# Altium integrated library STM32.IntLib: 732 symbols (part 52 of 99)
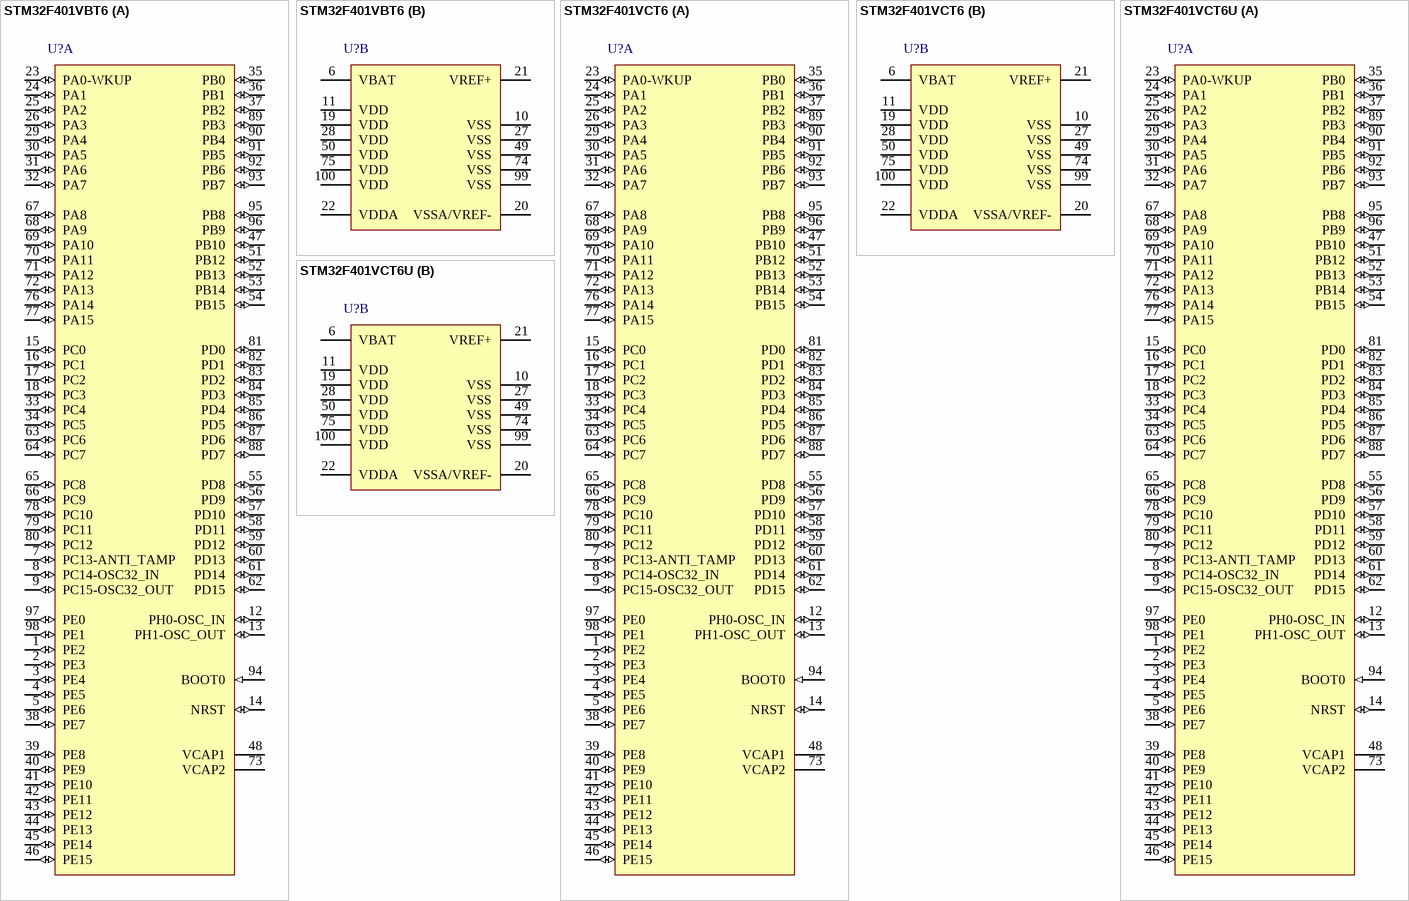
[diagram p205: symbols STM32F401VBT6 to STM32F401VCT6U]

## STM32F401VCT6U
designator U?
ARM Cortex-M4 32-bit MCU+FPU, 105 DMIPS, 256 kB Flash, 64 kB Internal RAM, 79 I/Os, 100-pin LQFP, -40 to 85 degC, Tray; Manufacturer: STMicroelectronics; PartNumber: STM32F401VCT6U; FLASH Size (Prog) (kB): 256; I/Os (High Current): 79; Internal RAM Size (kB): 64; Operating Frequency(F) (Processor speed) (MHz): 84; Supply Voltage(Vcc) max (V): 3.6; Supply Voltage(Vcc) min (V): 1.8; DatasheetVersion: Rev. 1; PackageVersion: Rev. 1, 06/2013; PackageReference: LQFP100; PackageDescription: 100-Pin Low Profile Quad Flat Package, 14 x 14 mm Body, 0.5 mm Pitch; Supplier 1: Mouser; Supplier Part Number 1: N/A; Core: ARM Cortex-M4; Packing: Tray; Mounting Technology: Surface Mount; ComponentLink1Description: Manufacturer URL; ComponentLink1URL: http://www.st.com/web/en/home.html; ComponentLink2Description: Datasheet; ComponentLink2URL: http://www.st.com/st-web-ui/static/active/en/resource/technical/document/data_brief/DM00071938.pdf; ComponentLink3Description: Package Specification; ComponentLink3URL: http://www.st.com/st-web-ui/static/active/en/resource/technical/document/data_brief/DM00071938.pdf
footprint STM-LQFP100_N (Thin QFP, 100-Leads, Body 14x14mm, Pitch 0.5mm, IPC Medium Density)
footprint STM-LQFP100_L (Thin QFP, 100-Leads, Body 14x14mm, Pitch 0.5mm, IPC High Density)
footprint STM-LQFP100_M (Thin QFP, 100-Leads, Body 14x14mm, Pitch 0.5mm, IPC Low Density)
footprint STM-LQFP100_V (Thin QFP, 100-Leads, Body 14x14mm, Pitch 0.5mm, ST Recommended)
part A pins: 1 PE2 (io) "PE2/SPI4_SCK,TRACECLK", 2 PE3 (io) "PE3/TRACED0", 3 PE4 (io) "PE4/SPI4_NSS,TRACED1", 4 PE5 (io) "PE5/SPI4_MISO,TIM9_CH1,TRACED2", 5 PE6 (io) "PE6/SPI4_MOSI,TIM9_CH2,TRACED3", 7 PC13-ANTI_TAMP (io) "PC13-ANTI_TAMP/TAMP_1", 8 PC14-OSC32_IN (io) "PC14-OSC32_IN/OSC32_IN", 9 PC15-OSC32_OUT (io) "PC15-OSC32_OUT/OSC32_OUT", 12 PH0-OSC_IN (io) "PH0-OSC_IN/OSC_IN", 13 PH1-OSC_OUT (io) "PH1-OSC_OUT/OSC_OUT", 14 NRST (io), 15 PC0 (io) "PC0/ADC1_10", 16 PC1 (io) "PC1/ADC1_11", 17 PC2 (io) "PC2/SPI2_MISO,I2S2ext_SD/ADC1_12", 18 PC3 (io) "PC3/SPI2_MOSI/I2S2_SD/ADC1_13", 23 PA0-WKUP (io) "PA0-WKUP/USART2_CTS,TIM2_CH1/TIM2_ETR,TIM5_CH1/ADC1_0,WKUP", 24 PA1 (io) "PA1/USART2_RTS,TIM2_CH2,TIM5_CH2/ADC1_1", 25 PA2 (io) "PA2/USART2_TX,TIM2_CH3,TIM5_CH3,TIM9_CH1/ADC1_2", 26 PA3 (io) "PA3/USART2_RX,TIM2_CH4,TIM5_CH4,TIM9_CH2/ADC1_3", 29 PA4 (io) "PA4/SPI1_NSS,SPI3_NSS/I2S3_WS,USART2_CK/ADC1_4", 30 PA5 (io) "PA5/SPI1_SCK,TIM2_CH1/TIM2_ETR/ADC1_5", 31 PA6 (io) "PA6/SPI1_MISO,TIM1_BKIN,TIM3_CH1/ADC1_6", 32 PA7 (io) "PA7/SPI1_MOSI,TIM1_CH1N,TIM3_CH2/ADC1_7", 33 PC4 (io) "PC4/ADC1_14", 34 PC5 (io) "PC5/ADC1_15", 35 PB0 (io) "PB0/TIM1_CH2N,TIM3_CH3/ADC1_8", 36 PB1 (io) "PB1/TIM1_CH3N,TIM3_CH4/ADC1_9", 37 PB2 (io), 38 PE7 (io) "PE7/TIM1_ETR", 39 PE8 (io) "PE8/TIM1_CH1N", 40 PE9 (io) "PE9/TIM1_CH1", 41 PE10 (io) "PE10/TIM1_CH2N", 42 PE11 (io) "PE11/SPI4_NSS,TIM1_CH2", 43 PE12 (io) "PE12/SPI4_SCK,TIM1_CH3N", 44 PE13 (io) "PE13/SPI4_MISO,TIM1_CH3", 45 PE14 (io) "PE14/SPI4_MOSI,TIM1_CH4", 46 PE15 (io) "PE15/TIM1_BKIN", 47 PB10 (io) "PB10/SPI2_SCK/I2S2_CK,I2C2_SCL,TIM2_CH3", 48 VCAP1 (power), 51 PB12 (io) "PB12/SPI2_NSS/I2S2_WS,I2C2_SMBAL,TIM1_BKIN", 52 PB13 (io) "PB13/SPI2_SCK/I2S2_CK,TIM1_CH1N", 53 PB14 (io) "PB14/SPI2_MISO,I2S2ext_SD,TIM1_CH2N", 54 PB15 (io) "PB15/SPI2_MOSI/I2S2_SD,TIM1_CH3N,RTC_50Hz", 55 PD8 (io), 56 PD9 (io), 57 PD10 (io), 58 PD11 (io), 59 PD12 (io) "PD12/TIM4_CH1", 60 PD13 (io) "PD13/TIM4_CH2", 61 PD14 (io) "PD14/TIM4_CH3", 62 PD15 (io) "PD15/TIM4_CH4", 63 PC6 (io) "PC6/I2S2_MCK,USART6_TX,TIM3_CH1,SDIO_D6", 64 PC7 (io) "PC7/I2S3_MCK,USART6_RX,TIM3_CH2,SDIO_D7", 65 PC8 (io) "PC8/USART6_CK,TIM3_CH3,SDIO_D0", 66 PC9 (io) "PC9/I2S2_CKIN,I2C3_SDA,TIM3_CH4,SDIO_D1,MCO_2", 67 PA8 (io) "PA8/I2C3_SCL,USART1_CK,TIM1_CH1,USB_FS_SOF,MCO_1", 68 PA9 (io) "PA9/I2C3_SMBAL,USART1_TX,TIM1_CH2,USB_FS_VBUS", 69 PA10 (io) "PA10/USART1_RX,TIM1_CH3,USB_FS_ID", 70 PA11 (io) "PA11/USART1_CTS,USART6_TX,TIM1_CH4,USB_FS_DM", 71 PA12 (io) "PA12/USART1_RTS,USART6_RX,TIM1_ETR,USB_FS_DP", 72 PA13 (io) "PA13/JTMS-SWDIO", 73 VCAP2 (power), 76 PA14 (io) "PA14/JTCK-SWCLK", 77 PA15 (io) "PA15/SPI1_NSS,SPI3_NSS/I2S3_WS,TIM2_CH1/TIM2_ETR,JTDI", 78 PC10 (io) "PC10/SPI3_SCK/I2S3_CK,SDIO_D2", 79 PC11 (io) "PC11/I2S3ext_SD,SPI3_MISO,SDIO_D3", 80 PC12 (io) "PC12/SPI3_MOSI/I2S3_SD,SDIO_CK", 81 PD0 (io), 82 PD1 (io), 83 PD2 (io) "PD2/TIM3_ETR,SDIO_CMD", 84 PD3 (io) "PD3/SPI2_SCK/I2S2_CK,USART2_CTS", 85 PD4 (io) "PD4/USART2_RTS", 86 PD5 (io) "PD5/USART2_TX", 87 PD6 (io) "PD6/SPI3_MOSI/I2S3_SD,USART2_RX", 88 PD7 (io) "PD7/USART2_CK", 89 PB3 (io) "PB3/SPI1_SCK,SPI3_SCK/I2S3_CK,I2C2_SDA,TIM2_CH2,JTDO-SWO", 90 PB4 (io) "PB4/SPI1_MISO,SPI3_MISO,I2S3ext_SD,I2C3_SDA,TIM3_CH1,JTRST", 91 PB5 (io) "PB5/SPI1_MOSI,SPI3_MOSI/I2S3_SD,I2C1_SMBAL,TIM3_CH2", 92 PB6 (io) "PB6/I2C1_SCL,USART1_TX,TIM4_CH1", 93 PB7 (io) "PB7/I2C1_SDA,USART1_RX,TIM4_CH2", 94 BOOT0 (in), 95 PB8 (io) "PB8/I2C1_SCL,TIM4_CH3,TIM10_CH1,SDIO_D4", 96 PB9 (io) "PB9/SPI2_NSS/I2S2_WS,I2C1_SDA,TIM4_CH4,TIM11_CH1,SDIO_D5", 97 PE0 (io) "PE0/TIM4_ETR", 98 PE1 (io)
part B pins: 6 VBAT (power), 10 VSS (power), 11 VDD (power), 19 VDD (power), 20 VSSA/VREF- (power), 21 VREF+ (power), 22 VDDA (power), 27 VSS (power), 28 VDD (power), 49 VSS (power), 50 VDD (power), 74 VSS (power), 75 VDD (power), 99 VSS (power), 100 VDD (power)

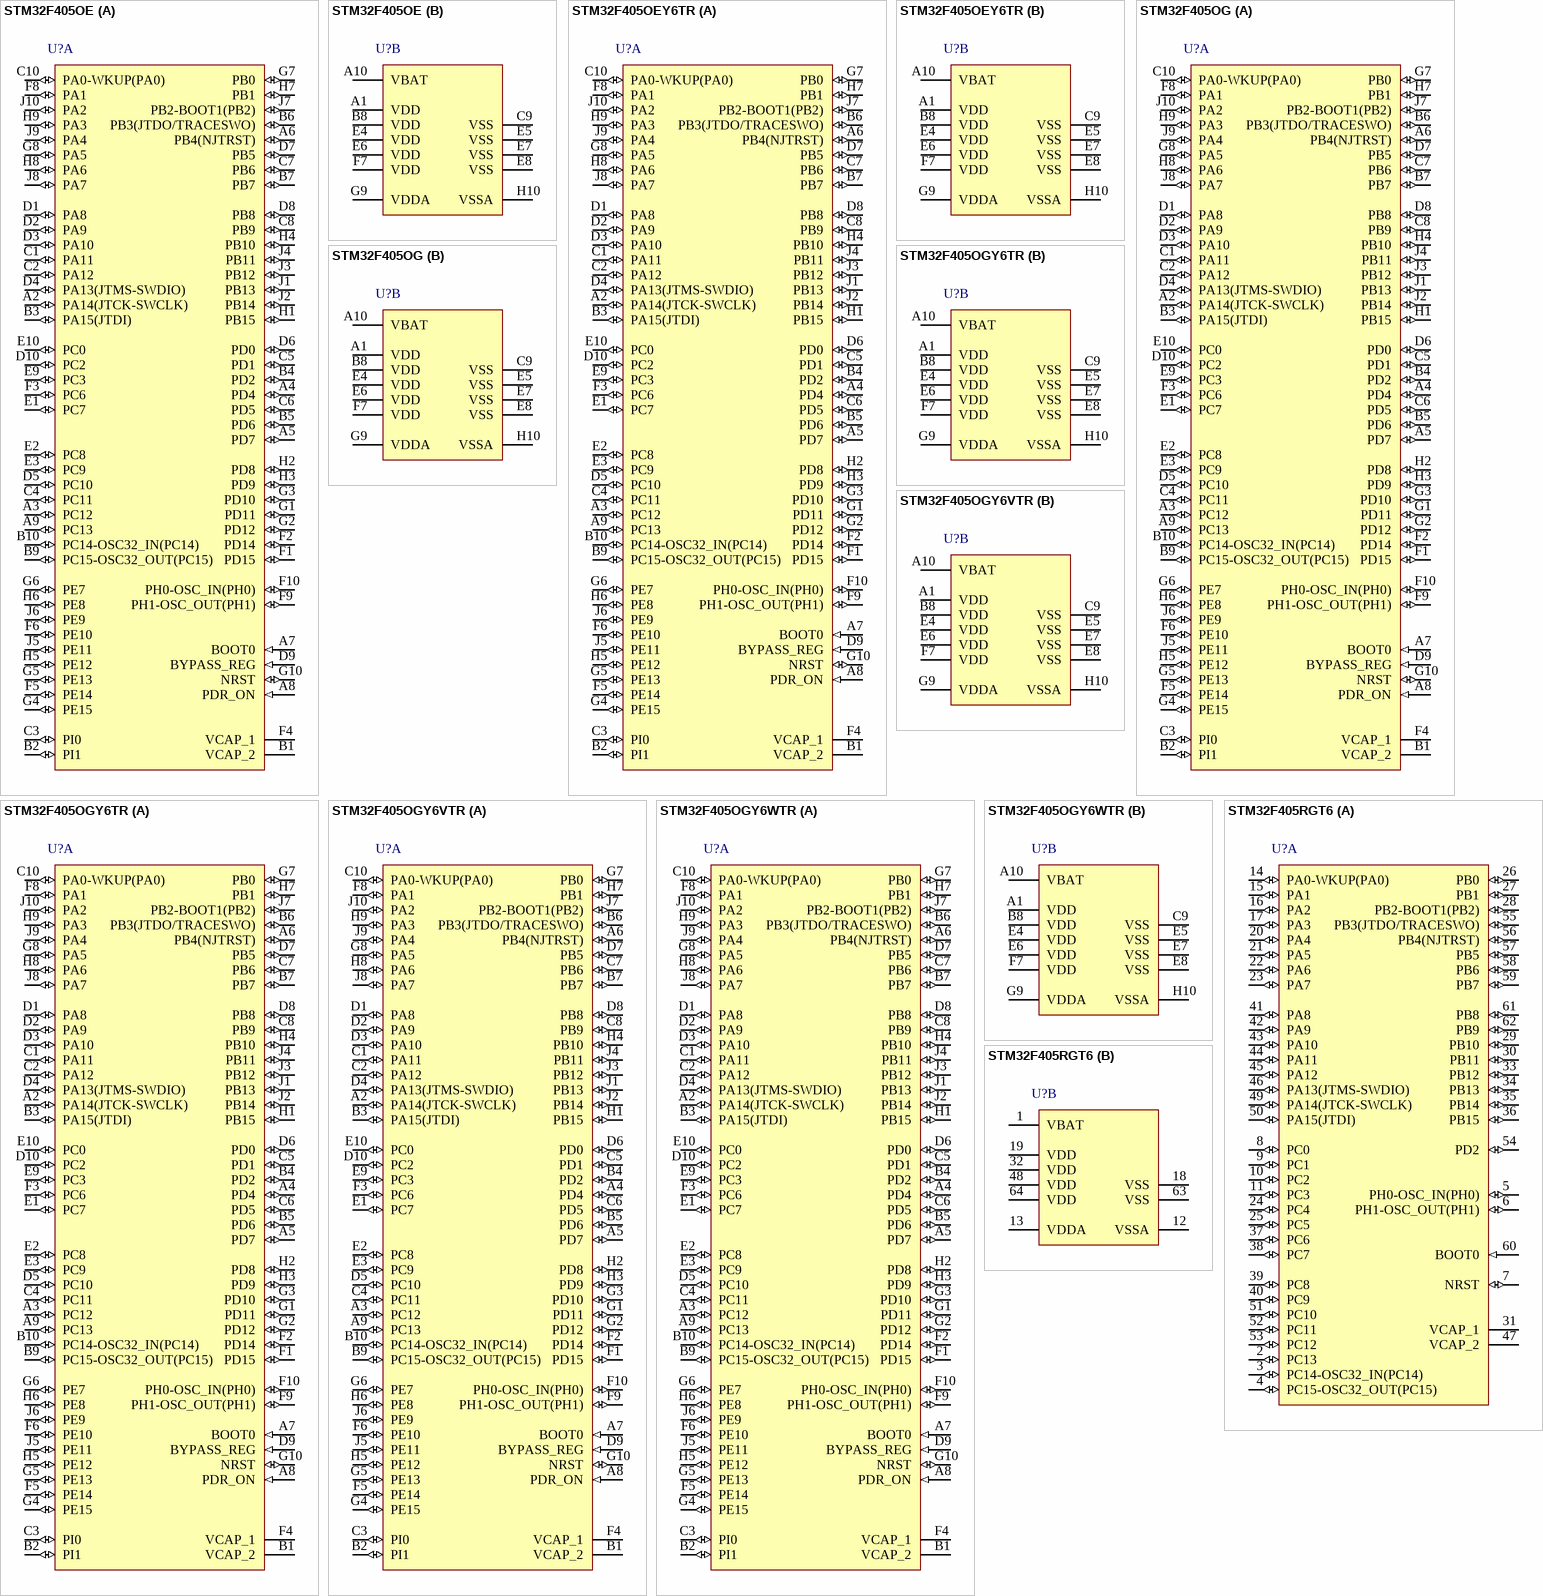
[diagram p83: symbols STM32F405OE to STM32F405RGT6]

## STM32F405OE
designator U?
ARM Cortex-M4 32-bit MCU+FPU, 210 DMIPS, 512 kB Flash, 192 kB Internal RAM, 72 I/Os, 90-pin WLCSP; Manufacturer: STMicroelectronics; PartNumber: STM32F405OE; D/A Converter: 2x12-bit; FLASH Size (Prog) (kB): 512; I/Os (High Current): 72; Internal RAM Size (kB): 192; Operating Frequency(F) (Processor speed) (MHz): 168; Supply Voltage(Vcc) max (V): 3.6; Supply Voltage(Vcc) min (V): 1.8; DatasheetVersion: Rev. 4; PackageVersion: Rev. 4, 06/2013; PackageReference: WLCSP90; PackageDescription: 90-Ball Wafer Level Chip Size Package, 0.4 mm Pitch; Core: ARM Cortex-M4; Mounting Technology: Surface Mount; ComponentLink1Description: Manufacturer URL; ComponentLink1URL: http://www.st.com/web/en/home.html; ComponentLink2Description: Datasheet; ComponentLink2URL: http://www.st.com/st-web-ui/static/active/en/resource/technical/document/datasheet/DM00037051.pdf; ComponentLink3Description: Package Specification; ComponentLink3URL: http://www.st.com/st-web-ui/static/active/en/resource/technical/document/datasheet/DM00035129.pdf
footprint STM-WLCSP90 (BGA, 90-Leads, Body 3.97x4.22mm, Pitch 0.4mm)
part A pins: A2 PA14(JTCK-SWCLK) (io) "PA14(JTCK-SWCLK)/JTCK-SWCLK/EVENTOUT", A3 PC12 (io) "PC12/UART5_TX/SDIO_CK/DCMI_D9/SPI3_MOSI/I2S3_SD/USART3_CK/EVENTOUT", A4 PD4 (io) "PD4/FSMC_NOE/USART2_RTS/EVENTOUT", A5 PD7 (io) "PD7/USART2_CK/FSMC_NE1/FSMC_NCE2/EVENTOUT", A6 PB4(NJTRST) (io) "PB4(NJTRST)/NJTRST/SPI3_MISO/TIM3_CH1/SPI1_MISO/I2S3ext_SD/EVENTOUT", A7 BOOT0 (in) "BOOT0/VPP", A8 PDR_ON (in), A9 PC13 (io) "PC13/EVENTOUT/RTC_OUT,RTC_TAMP1,RTC_TS", B1 VCAP_2 (power), B2 PI1 (io) "PI1/SPI2_SCK/I2S2_CK/DCMI_D8/EVENTOUT", B3 PA15(JTDI) (io) "PA15(JTDI)/JTDI/SPI3_NSS/I2S3_WS/TIM2_CH1_ETR/SPI1_NSS/EVENTOUT", B4 PD2 (io) "PD2/TIM3_ETR/UART5_RX/SDIO_CMD/DCMI_D11/EVENTOUT", B5 PD6 (io) "PD6/FSMC_NWAIT/USART2_RX/EVENTOUT", B6 PB3(JTDO/TRACESWO) (io) "PB3(JTDO/TRACESWO)/JTDO/TRACESWO/SPI3_SCK/I2S3_CK/TIM2_CH2/SPI1_SCK/EVENTOUT", B7 PB7 (io) "PB7/I2C1_SDA/FSMC_NL/DCMI_VSYNC/USART1_RX/TIM4_CH2/EVENTOUT", B9 PC15-OSC32_OUT(PC15) (io) "PC15-OSC32_OUT(PC15)/EVENTOUT/OSC32_OUT", B10 PC14-OSC32_IN(PC14) (io) "PC14-OSC32_IN(PC14)/EVENTOUT/OSC32_IN", C1 PA11 (io) "PA11/USART1_CTS/CAN1_RX/TIM1_CH4/OTG_FS_DM/EVENTOUT", C2 PA12 (io) "PA12/USART1_RTS/CAN1_TX/TIM1_ETR/OTG_FS_DP/EVENTOUT", C3 PI0 (io) "PI0/TIM5_CH4/SPI2_NSS/I2S2_WS/DCMI_D13/EVENTOUT", C4 PC11 (io) "PC11/UART4_RX/SPI3_MISO/SDIO_D3/DCMI_D4/USART3_RX/I2S3ext_SD/EVENTOUT", C5 PD1 (io) "PD1/FSMC_D3/CAN1_TX/EVENTOUT", C6 PD5 (io) "PD5/FSMC_NWE/USART2_TX/EVENTOUT", C7 PB6 (io) "PB6/I2C1_SCL/TIM4_CH1/CAN2_TX/DCMI_D5/USART1_TX/EVENTOUT", C8 PB9 (io) "PB9/SPI2_NSS/I2S2_WS/TIM4_CH4/TIM11_CH1/SDIO_D5/DCMI_D7/I2C1_SDA/CAN1_TX/EVENTOUT", C10 PA0-WKUP(PA0) (io) "PA0-WKUP(PA0)/USART2_CTS/UART4_TX/ETH_MII_CRS/TIM2_CH1_ETR/TIM5_CH1/TIM8_ETR/EVENTOUT/ADC123_IN0/WKUP", D1 PA8 (io) "PA8/MCO1/USART1_CK/TIM1_CH1/I2C3_SCL/OTG_FS_SOF/EVENTOUT", D2 PA9 (io) "PA9/USART1_TX/TIM1_CH2/I2C3_SMBA/DCMI_D0/EVENTOUT/OTG_FS_VBUS", D3 PA10 (io) "PA10/USART1_RX/TIM1_CH3/OTG_FS_ID/DCMI_D1/EVENTOUT", D4 PA13(JTMS-SWDIO) (io) "PA13(JTMS-SWDIO)/JTMS-SWDIO/EVENTOUT", D5 PC10 (io) "PC10/SPI3_SCK/I2S3_CK/UART4_TX/SDIO_D2/DCMI_D8/USART3_TX/EVENTOUT", D6 PD0 (io) "PD0/FSMC_D2/CAN1_RX/EVENTOUT", D7 PB5 (io) "PB5/I2C1_SMBA/CAN2_RX/OTG_HS_ULPI_D7/ETH_PPS_OUT/TIM3_CH2/SPI1_MOSI/SPI3_MOSI/DCMI_D10/I2S3_SD/EVENTOUT", D8 PB8 (io) "PB8/TIM4_CH3/SDIO_D4/TIM10_CH1/DCMI_D6/ETH_MII_TXD3/I2C1_SCL/CAN1_RX/EVENTOUT", D9 BYPASS_REG (in), D10 PC2 (io) "PC2/SPI2_MISO/OTG_HS_ULPI_DIR/ETH_MII_TXD2/I2S2ext_SD/EVENTOUT/ADC123_IN12", E1 PC7 (io) "PC7/I2S3_MCK/TIM8_CH2/SDIO_D7/USART6_RX/DCMI_D1/TIM3_CH2/EVENTOUT", E2 PC8 (io) "PC8/TIM8_CH3/SDIO_D0/TIM3_CH3/USART6_CK/DCMI_D2/EVENTOUT", E3 PC9 (io) "PC9/I2S_CKIN/MCO2/TIM8_CH4/SDIO_D1/I2C3_SDA/DCMI_D3/TIM3_CH4/EVENTOUT", E9 PC3 (io) "PC3/SPI2_MOSI/I2S2_SD/OTG_HS_ULPI_NXT/ETH_MII_TX_CLK/EVENTOUT/ADC123_IN13", E10 PC0 (io) "PC0/OTG_HS_ULPI_STP/EVENTOUT/ADC123_IN10", F1 PD15 (io) "PD15/FSMC_D1/TIM4_CH4/EVENTOUT", F2 PD14 (io) "PD14/FSMC_D0/TIM4_CH3/EVENTOUT", F3 PC6 (io) "PC6/I2S2_MCK/TIM8_CH1/SDIO_D6/USART6_TX/DCMI_D0/TIM3_CH1/EVENTOUT", F4 VCAP_1 (power), F5 PE14 (io) "PE14/FSMC_D11/TIM1_CH4/EVENTOUT", F6 PE10 (io) "PE10/FSMC_D7/TIM1_CH2N/EVENTOUT", F8 PA1 (io) "PA1/USART2_RTS/UART4_RX/ETH_RMII_REF_CLK/ETH_MII_RX_CLK/TIM5_CH2/TIM2_CH2/EVENTOUT/ADC123_IN1", F9 PH1-OSC_OUT(PH1) (io) "PH1-OSC_OUT(PH1)/EVENTOUT/OSC_OUT", F10 PH0-OSC_IN(PH0) (io) "PH0-OSC_IN(PH0)/EVENTOUT/OSC_IN", G1 PD11 (io) "PD11/FSMC_CLE/FSMC_A16/USART3_CTS/EVENTOUT", G2 PD12 (io) "PD12/FSMC_ALE/FSMC_A17/TIM4_CH1/USART3_RTS/EVENTOUT", G3 PD10 (io) "PD10/FSMC_D15/USART3_CK/EVENTOUT", G4 PE15 (io) "PE15/FSMC_D12/TIM1_BKIN/EVENTOUT", G5 PE13 (io) "PE13/FSMC_D10/TIM1_CH3/EVENTOUT", G6 PE7 (io) "PE7/FSMC_D4/TIM1_ETR/EVENTOUT", G7 PB0 (io) "PB0/TIM3_CH3/TIM8_CH2N/OTG_HS_ULPI_D1/ETH_MII_RXD2/TIM1_CH2N/EVENTOUT/ADC12_IN8", G8 PA5 (io) "PA5/SPI1_SCK/OTG_HS_ULPI_CK/TIM2_CH1_ETR/TIM8_CH1N/EVENTOUT/ADC12_IN5/DAC_OUT2", G10 NRST (io), H1 PB15 (io) "PB15/SPI2_MOSI/I2S2_SD/TIM1_CH3N/TIM8_CH3N/TIM12_CH2/OTG_HS_DP/EVENTOUT/RTC_REFIN", H2 PD8 (io) "PD8/FSMC_D13/USART3_TX/EVENTOUT", H3 PD9 (io) "PD9/FSMC_D14/USART3_RX/EVENTOUT", H4 PB10 (io) "PB10/SPI2_SCK/I2S2_CK/I2C2_SCL/USART3_TX/OTG_HS_ULPI_D3/ETH_MII_RX_ER/TIM2_CH3/EVENTOUT", H5 PE12 (io) "PE12/FSMC_D9/TIM1_CH3N/EVENTOUT", H6 PE8 (io) "PE8/FSMC_D5/TIM1_CH1N/EVENTOUT", H7 PB1 (io) "PB1/TIM3_CH4/TIM8_CH3N/OTG_HS_ULPI_D2/ETH_MII_RXD3/TIM1_CH3N/EVENTOUT/ADC12_IN9", H8 PA6 (io) "PA6/SPI1_MISO/TIM8_BKIN/TIM13_CH1/DCMI_PIXCLK/TIM3_CH1/TIM1_BKIN/EVENTOUT/ADC12_IN6", H9 PA3 (io) "PA3/USART2_RX/TIM5_CH4/TIM9_CH2/TIM2_CH4/OTG_HS_ULPI_D0/ETH_MII_COL/EVENTOUT/ADC123_IN3", J1 PB13 (io) "PB13/SPI2_SCK/I2S2_CK/USART3_CTS/TIM1_CH1N/CAN2_TX/OTG_HS_ULPI_D6/ETH_RMII_TXD1/ETH_MII_TXD1/EVENTOUT/OTG_HS_VBUS", J2 PB14 (io) "PB14/SPI2_MISO/TIM1_CH2N/TIM12_CH1/OTG_HS_DM/USART3_RTS/TIM8_CH2N/I2S2ext_SD/EVENTOUT", J3 PB12 (io) "PB12/SPI2_NSS/I2S2_WS/I2C2_SMBA/USART3_CK/TIM1_BKIN/CAN2_RX/OTG_HS_ULPI_D5/ETH_RMII_TXD0/ETH_MII_TXD0/OTG_HS_ID/EVENTOUT", J4 PB11 (io) "PB11/I2C2_SDA/USART3_RX/OTG_HS_ULPI_D4/ETH_RMII_TX_EN/ETH_MII_TX_EN/TIM2_CH4/EVENTOUT", J5 PE11 (io) "PE11/FSMC_D8/TIM1_CH2/EVENTOUT", J6 PE9 (io) "PE9/FSMC_D6/TIM1_CH1/EVENTOUT", J7 PB2-BOOT1(PB2) (io) "PB2-BOOT1(PB2)/EVENTOUT", J8 PA7 (io) "PA7/SPI1_MOSI/TIM8_CH1N/TIM14_CH1/TIM3_CH2/ETH_MII_RX_DV/TIM1_CH1N/ETH_RMII_CRS_DV/EVENTOUT/ADC12_IN7", J9 PA4 (io) "PA4/SPI1_NSS/SPI3_NSS/USART2_CK/DCMI_HSYNC/OTG_HS_SOF/I2S3_WS/EVENTOUT/ADC12_IN4/DAC_OUT1", J10 PA2 (io) "PA2/USART2_TX/TIM5_CH3/TIM9_CH1/TIM2_CH3/ETH_MDIO/EVENTOUT/ADC123_IN2"
part B pins: A1 VDD (power), A10 VBAT (power), B8 VDD (power), C9 VSS (power), E4 VDD (power), E5 VSS (power), E6 VDD (power), E7 VSS (power), E8 VSS (power), F7 VDD (power), G9 VDDA (power), H10 VSSA (power)

## STM32F405OEY6TR
designator U?
ARM Cortex-M4 32-bit MCU+FPU, 210 DMIPS, 512 kB Flash, 192 kB Internal RAM, 72 I/Os, 90-pin WLCSP, -40 to 85 degC, Tape and Reel; Manufacturer: STMicroelectronics; PartNumber: STM32F405OEY6TR; D/A Converter: 2x12-bit; FLASH Size (Prog) (kB): 512; I/Os (High Current): 72; Internal RAM Size (kB): 192; Operating Frequency(F) (Processor speed) (MHz): 168; Supply Voltage(Vcc) max (V): 3.6; Supply Voltage(Vcc) min (V): 1.8; DatasheetVersion: Rev. 4; PackageVersion: Rev. 4, 06/2013; PackageReference: WLCSP90; PackageDescription: 90-Ball Wafer Level Chip Size Package, 0.4 mm Pitch; Supplier 1: Digi-Key; Supplier Part Number 1: STM32F405OEY6TR-ND; Supplier 2: Newark; Supplier Part Number 2: 48W6903; Supplier 3: Mouser; Supplier Part Number 3: 511-STM32F405OEY6TR; Core: ARM Cortex-M4; Packing: Tape and Reel; Mounting Technology: Surface Mount; ComponentLink1Description: Manufacturer URL; ComponentLink1URL: http://www.st.com/web/en/home.html; ComponentLink2Description: Datasheet; ComponentLink2URL: http://www.st.com/st-web-ui/static/active/en/resource/technical/document/datasheet/DM00037051.pdf; ComponentLink3Description: Package Specification; ComponentLink3URL: http://www.st.com/st-web-ui/static/active/en/resource/technical/document/datasheet/DM00035129.pdf
footprint STM-WLCSP90 (BGA, 90-Leads, Body 3.97x4.22mm, Pitch 0.4mm)
part A pins: A2 PA14(JTCK-SWCLK) (io) "PA14(JTCK-SWCLK)/JTCK-SWCLK/EVENTOUT", A3 PC12 (io) "PC12/UART5_TX/SDIO_CK/DCMI_D9/SPI3_MOSI/I2S3_SD/USART3_CK/EVENTOUT", A4 PD4 (io) "PD4/FSMC_NOE/USART2_RTS/EVENTOUT", A5 PD7 (io) "PD7/USART2_CK/FSMC_NE1/FSMC_NCE2/EVENTOUT", A6 PB4(NJTRST) (io) "PB4(NJTRST)/NJTRST/SPI3_MISO/TIM3_CH1/SPI1_MISO/I2S3ext_SD/EVENTOUT", A7 BOOT0 (in) "BOOT0/VPP", A8 PDR_ON (in), A9 PC13 (io) "PC13/EVENTOUT/RTC_OUT,RTC_TAMP1,RTC_TS", B1 VCAP_2 (power), B2 PI1 (io) "PI1/SPI2_SCK/I2S2_CK/DCMI_D8/EVENTOUT", B3 PA15(JTDI) (io) "PA15(JTDI)/JTDI/SPI3_NSS/I2S3_WS/TIM2_CH1_ETR/SPI1_NSS/EVENTOUT", B4 PD2 (io) "PD2/TIM3_ETR/UART5_RX/SDIO_CMD/DCMI_D11/EVENTOUT", B5 PD6 (io) "PD6/FSMC_NWAIT/USART2_RX/EVENTOUT", B6 PB3(JTDO/TRACESWO) (io) "PB3(JTDO/TRACESWO)/JTDO/TRACESWO/SPI3_SCK/I2S3_CK/TIM2_CH2/SPI1_SCK/EVENTOUT", B7 PB7 (io) "PB7/I2C1_SDA/FSMC_NL/DCMI_VSYNC/USART1_RX/TIM4_CH2/EVENTOUT", B9 PC15-OSC32_OUT(PC15) (io) "PC15-OSC32_OUT(PC15)/EVENTOUT/OSC32_OUT", B10 PC14-OSC32_IN(PC14) (io) "PC14-OSC32_IN(PC14)/EVENTOUT/OSC32_IN", C1 PA11 (io) "PA11/USART1_CTS/CAN1_RX/TIM1_CH4/OTG_FS_DM/EVENTOUT", C2 PA12 (io) "PA12/USART1_RTS/CAN1_TX/TIM1_ETR/OTG_FS_DP/EVENTOUT", C3 PI0 (io) "PI0/TIM5_CH4/SPI2_NSS/I2S2_WS/DCMI_D13/EVENTOUT", C4 PC11 (io) "PC11/UART4_RX/SPI3_MISO/SDIO_D3/DCMI_D4/USART3_RX/I2S3ext_SD/EVENTOUT", C5 PD1 (io) "PD1/FSMC_D3/CAN1_TX/EVENTOUT", C6 PD5 (io) "PD5/FSMC_NWE/USART2_TX/EVENTOUT", C7 PB6 (io) "PB6/I2C1_SCL/TIM4_CH1/CAN2_TX/DCMI_D5/USART1_TX/EVENTOUT", C8 PB9 (io) "PB9/SPI2_NSS/I2S2_WS/TIM4_CH4/TIM11_CH1/SDIO_D5/DCMI_D7/I2C1_SDA/CAN1_TX/EVENTOUT", C10 PA0-WKUP(PA0) (io) "PA0-WKUP(PA0)/USART2_CTS/UART4_TX/ETH_MII_CRS/TIM2_CH1_ETR/TIM5_CH1/TIM8_ETR/EVENTOUT/ADC123_IN0/WKUP", D1 PA8 (io) "PA8/MCO1/USART1_CK/TIM1_CH1/I2C3_SCL/OTG_FS_SOF/EVENTOUT", D2 PA9 (io) "PA9/USART1_TX/TIM1_CH2/I2C3_SMBA/DCMI_D0/EVENTOUT/OTG_FS_VBUS", D3 PA10 (io) "PA10/USART1_RX/TIM1_CH3/OTG_FS_ID/DCMI_D1/EVENTOUT", D4 PA13(JTMS-SWDIO) (io) "PA13(JTMS-SWDIO)/JTMS-SWDIO/EVENTOUT", D5 PC10 (io) "PC10/SPI3_SCK/I2S3_CK/UART4_TX/SDIO_D2/DCMI_D8/USART3_TX/EVENTOUT", D6 PD0 (io) "PD0/FSMC_D2/CAN1_RX/EVENTOUT", D7 PB5 (io) "PB5/I2C1_SMBA/CAN2_RX/OTG_HS_ULPI_D7/ETH_PPS_OUT/TIM3_CH2/SPI1_MOSI/SPI3_MOSI/DCMI_D10/I2S3_SD/EVENTOUT", D8 PB8 (io) "PB8/TIM4_CH3/SDIO_D4/TIM10_CH1/DCMI_D6/ETH_MII_TXD3/I2C1_SCL/CAN1_RX/EVENTOUT", D9 BYPASS_REG (in), D10 PC2 (io) "PC2/SPI2_MISO/OTG_HS_ULPI_DIR/ETH_MII_TXD2/I2S2ext_SD/EVENTOUT/ADC123_IN12", E1 PC7 (io) "PC7/I2S3_MCK/TIM8_CH2/SDIO_D7/USART6_RX/DCMI_D1/TIM3_CH2/EVENTOUT", E2 PC8 (io) "PC8/TIM8_CH3/SDIO_D0/TIM3_CH3/USART6_CK/DCMI_D2/EVENTOUT", E3 PC9 (io) "PC9/I2S_CKIN/MCO2/TIM8_CH4/SDIO_D1/I2C3_SDA/DCMI_D3/TIM3_CH4/EVENTOUT", E9 PC3 (io) "PC3/SPI2_MOSI/I2S2_SD/OTG_HS_ULPI_NXT/ETH_MII_TX_CLK/EVENTOUT/ADC123_IN13", E10 PC0 (io) "PC0/OTG_HS_ULPI_STP/EVENTOUT/ADC123_IN10", F1 PD15 (io) "PD15/FSMC_D1/TIM4_CH4/EVENTOUT", F2 PD14 (io) "PD14/FSMC_D0/TIM4_CH3/EVENTOUT", F3 PC6 (io) "PC6/I2S2_MCK/TIM8_CH1/SDIO_D6/USART6_TX/DCMI_D0/TIM3_CH1/EVENTOUT", F4 VCAP_1 (power), F5 PE14 (io) "PE14/FSMC_D11/TIM1_CH4/EVENTOUT", F6 PE10 (io) "PE10/FSMC_D7/TIM1_CH2N/EVENTOUT", F8 PA1 (io) "PA1/USART2_RTS/UART4_RX/ETH_RMII_REF_CLK/ETH_MII_RX_CLK/TIM5_CH2/TIM2_CH2/EVENTOUT/ADC123_IN1", F9 PH1-OSC_OUT(PH1) (io) "PH1-OSC_OUT(PH1)/EVENTOUT/OSC_OUT", F10 PH0-OSC_IN(PH0) (io) "PH0-OSC_IN(PH0)/EVENTOUT/OSC_IN", G1 PD11 (io) "PD11/FSMC_CLE/FSMC_A16/USART3_CTS/EVENTOUT", G2 PD12 (io) "PD12/FSMC_ALE/FSMC_A17/TIM4_CH1/USART3_RTS/EVENTOUT", G3 PD10 (io) "PD10/FSMC_D15/USART3_CK/EVENTOUT", G4 PE15 (io) "PE15/FSMC_D12/TIM1_BKIN/EVENTOUT", G5 PE13 (io) "PE13/FSMC_D10/TIM1_CH3/EVENTOUT", G6 PE7 (io) "PE7/FSMC_D4/TIM1_ETR/EVENTOUT", G7 PB0 (io) "PB0/TIM3_CH3/TIM8_CH2N/OTG_HS_ULPI_D1/ETH_MII_RXD2/TIM1_CH2N/EVENTOUT/ADC12_IN8", G8 PA5 (io) "PA5/SPI1_SCK/OTG_HS_ULPI_CK/TIM2_CH1_ETR/TIM8_CH1N/EVENTOUT/ADC12_IN5/DAC_OUT2", G10 NRST (io), H1 PB15 (io) "PB15/SPI2_MOSI/I2S2_SD/TIM1_CH3N/TIM8_CH3N/TIM12_CH2/OTG_HS_DP/EVENTOUT/RTC_REFIN", H2 PD8 (io) "PD8/FSMC_D13/USART3_TX/EVENTOUT", H3 PD9 (io) "PD9/FSMC_D14/USART3_RX/EVENTOUT", H4 PB10 (io) "PB10/SPI2_SCK/I2S2_CK/I2C2_SCL/USART3_TX/OTG_HS_ULPI_D3/ETH_MII_RX_ER/TIM2_CH3/EVENTOUT", H5 PE12 (io) "PE12/FSMC_D9/TIM1_CH3N/EVENTOUT", H6 PE8 (io) "PE8/FSMC_D5/TIM1_CH1N/EVENTOUT", H7 PB1 (io) "PB1/TIM3_CH4/TIM8_CH3N/OTG_HS_ULPI_D2/ETH_MII_RXD3/TIM1_CH3N/EVENTOUT/ADC12_IN9", H8 PA6 (io) "PA6/SPI1_MISO/TIM8_BKIN/TIM13_CH1/DCMI_PIXCLK/TIM3_CH1/TIM1_BKIN/EVENTOUT/ADC12_IN6", H9 PA3 (io) "PA3/USART2_RX/TIM5_CH4/TIM9_CH2/TIM2_CH4/OTG_HS_ULPI_D0/ETH_MII_COL/EVENTOUT/ADC123_IN3", J1 PB13 (io) "PB13/SPI2_SCK/I2S2_CK/USART3_CTS/TIM1_CH1N/CAN2_TX/OTG_HS_ULPI_D6/ETH_RMII_TXD1/ETH_MII_TXD1/EVENTOUT/OTG_HS_VBUS", J2 PB14 (io) "PB14/SPI2_MISO/TIM1_CH2N/TIM12_CH1/OTG_HS_DM/USART3_RTS/TIM8_CH2N/I2S2ext_SD/EVENTOUT", J3 PB12 (io) "PB12/SPI2_NSS/I2S2_WS/I2C2_SMBA/USART3_CK/TIM1_BKIN/CAN2_RX/OTG_HS_ULPI_D5/ETH_RMII_TXD0/ETH_MII_TXD0/OTG_HS_ID/EVENTOUT", J4 PB11 (io) "PB11/I2C2_SDA/USART3_RX/OTG_HS_ULPI_D4/ETH_RMII_TX_EN/ETH_MII_TX_EN/TIM2_CH4/EVENTOUT", J5 PE11 (io) "PE11/FSMC_D8/TIM1_CH2/EVENTOUT", J6 PE9 (io) "PE9/FSMC_D6/TIM1_CH1/EVENTOUT", J7 PB2-BOOT1(PB2) (io) "PB2-BOOT1(PB2)/EVENTOUT", J8 PA7 (io) "PA7/SPI1_MOSI/TIM8_CH1N/TIM14_CH1/TIM3_CH2/ETH_MII_RX_DV/TIM1_CH1N/ETH_RMII_CRS_DV/EVENTOUT/ADC12_IN7", J9 PA4 (io) "PA4/SPI1_NSS/SPI3_NSS/USART2_CK/DCMI_HSYNC/OTG_HS_SOF/I2S3_WS/EVENTOUT/ADC12_IN4/DAC_OUT1", J10 PA2 (io) "PA2/USART2_TX/TIM5_CH3/TIM9_CH1/TIM2_CH3/ETH_MDIO/EVENTOUT/ADC123_IN2"
part B pins: A1 VDD (power), A10 VBAT (power), B8 VDD (power), C9 VSS (power), E4 VDD (power), E5 VSS (power), E6 VDD (power), E7 VSS (power), E8 VSS (power), F7 VDD (power), G9 VDDA (power), H10 VSSA (power)

## STM32F405OG
designator U?
ARM Cortex-M4 32-bit MCU+FPU, 210 DMIPS, 1024 kB Flash, 192 kB Internal RAM, 72 I/Os, 90-pin WLCSP; Manufacturer: STMicroelectronics; PartNumber: STM32F405OG; D/A Converter: 2x12-bit; FLASH Size (Prog) (kB): 1024; I/Os (High Current): 72; Internal RAM Size (kB): 192; Operating Frequency(F) (Processor speed) (MHz): 168; Supply Voltage(Vcc) max (V): 3.6; Supply Voltage(Vcc) min (V): 1.8; DatasheetVersion: Rev. 4; PackageVersion: Rev. 4, 06/2013; PackageReference: WLCSP90; PackageDescription: 90-Ball Wafer Level Chip Size Package, 0.4 mm Pitch; Core: ARM Cortex-M4; Mounting Technology: Surface Mount; ComponentLink1Description: Manufacturer URL; ComponentLink1URL: http://www.st.com/web/en/home.html; ComponentLink2Description: Datasheet; ComponentLink2URL: http://www.st.com/st-web-ui/static/active/en/resource/technical/document/datasheet/DM00037051.pdf; ComponentLink3Description: Package Specification; ComponentLink3URL: http://www.st.com/st-web-ui/static/active/en/resource/technical/document/datasheet/DM00035129.pdf
footprint STM-WLCSP90 (BGA, 90-Leads, Body 3.97x4.22mm, Pitch 0.4mm)
part A pins: A2 PA14(JTCK-SWCLK) (io) "PA14(JTCK-SWCLK)/JTCK-SWCLK/EVENTOUT", A3 PC12 (io) "PC12/UART5_TX/SDIO_CK/DCMI_D9/SPI3_MOSI/I2S3_SD/USART3_CK/EVENTOUT", A4 PD4 (io) "PD4/FSMC_NOE/USART2_RTS/EVENTOUT", A5 PD7 (io) "PD7/USART2_CK/FSMC_NE1/FSMC_NCE2/EVENTOUT", A6 PB4(NJTRST) (io) "PB4(NJTRST)/NJTRST/SPI3_MISO/TIM3_CH1/SPI1_MISO/I2S3ext_SD/EVENTOUT", A7 BOOT0 (in) "BOOT0/VPP", A8 PDR_ON (in), A9 PC13 (io) "PC13/EVENTOUT/RTC_OUT,RTC_TAMP1,RTC_TS", B1 VCAP_2 (power), B2 PI1 (io) "PI1/SPI2_SCK/I2S2_CK/DCMI_D8/EVENTOUT", B3 PA15(JTDI) (io) "PA15(JTDI)/JTDI/SPI3_NSS/I2S3_WS/TIM2_CH1_ETR/SPI1_NSS/EVENTOUT", B4 PD2 (io) "PD2/TIM3_ETR/UART5_RX/SDIO_CMD/DCMI_D11/EVENTOUT", B5 PD6 (io) "PD6/FSMC_NWAIT/USART2_RX/EVENTOUT", B6 PB3(JTDO/TRACESWO) (io) "PB3(JTDO/TRACESWO)/JTDO/TRACESWO/SPI3_SCK/I2S3_CK/TIM2_CH2/SPI1_SCK/EVENTOUT", B7 PB7 (io) "PB7/I2C1_SDA/FSMC_NL/DCMI_VSYNC/USART1_RX/TIM4_CH2/EVENTOUT", B9 PC15-OSC32_OUT(PC15) (io) "PC15-OSC32_OUT(PC15)/EVENTOUT/OSC32_OUT", B10 PC14-OSC32_IN(PC14) (io) "PC14-OSC32_IN(PC14)/EVENTOUT/OSC32_IN", C1 PA11 (io) "PA11/USART1_CTS/CAN1_RX/TIM1_CH4/OTG_FS_DM/EVENTOUT", C2 PA12 (io) "PA12/USART1_RTS/CAN1_TX/TIM1_ETR/OTG_FS_DP/EVENTOUT", C3 PI0 (io) "PI0/TIM5_CH4/SPI2_NSS/I2S2_WS/DCMI_D13/EVENTOUT", C4 PC11 (io) "PC11/UART4_RX/SPI3_MISO/SDIO_D3/DCMI_D4/USART3_RX/I2S3ext_SD/EVENTOUT", C5 PD1 (io) "PD1/FSMC_D3/CAN1_TX/EVENTOUT", C6 PD5 (io) "PD5/FSMC_NWE/USART2_TX/EVENTOUT", C7 PB6 (io) "PB6/I2C1_SCL/TIM4_CH1/CAN2_TX/DCMI_D5/USART1_TX/EVENTOUT", C8 PB9 (io) "PB9/SPI2_NSS/I2S2_WS/TIM4_CH4/TIM11_CH1/SDIO_D5/DCMI_D7/I2C1_SDA/CAN1_TX/EVENTOUT", C10 PA0-WKUP(PA0) (io) "PA0-WKUP(PA0)/USART2_CTS/UART4_TX/ETH_MII_CRS/TIM2_CH1_ETR/TIM5_CH1/TIM8_ETR/EVENTOUT/ADC123_IN0/WKUP", D1 PA8 (io) "PA8/MCO1/USART1_CK/TIM1_CH1/I2C3_SCL/OTG_FS_SOF/EVENTOUT", D2 PA9 (io) "PA9/USART1_TX/TIM1_CH2/I2C3_SMBA/DCMI_D0/EVENTOUT/OTG_FS_VBUS", D3 PA10 (io) "PA10/USART1_RX/TIM1_CH3/OTG_FS_ID/DCMI_D1/EVENTOUT", D4 PA13(JTMS-SWDIO) (io) "PA13(JTMS-SWDIO)/JTMS-SWDIO/EVENTOUT", D5 PC10 (io) "PC10/SPI3_SCK/I2S3_CK/UART4_TX/SDIO_D2/DCMI_D8/USART3_TX/EVENTOUT", D6 PD0 (io) "PD0/FSMC_D2/CAN1_RX/EVENTOUT", D7 PB5 (io) "PB5/I2C1_SMBA/CAN2_RX/OTG_HS_ULPI_D7/ETH_PPS_OUT/TIM3_CH2/SPI1_MOSI/SPI3_MOSI/DCMI_D10/I2S3_SD/EVENTOUT", D8 PB8 (io) "PB8/TIM4_CH3/SDIO_D4/TIM10_CH1/DCMI_D6/ETH_MII_TXD3/I2C1_SCL/CAN1_RX/EVENTOUT", D9 BYPASS_REG (in), D10 PC2 (io) "PC2/SPI2_MISO/OTG_HS_ULPI_DIR/ETH_MII_TXD2/I2S2ext_SD/EVENTOUT/ADC123_IN12", E1 PC7 (io) "PC7/I2S3_MCK/TIM8_CH2/SDIO_D7/USART6_RX/DCMI_D1/TIM3_CH2/EVENTOUT", E2 PC8 (io) "PC8/TIM8_CH3/SDIO_D0/TIM3_CH3/USART6_CK/DCMI_D2/EVENTOUT", E3 PC9 (io) "PC9/I2S_CKIN/MCO2/TIM8_CH4/SDIO_D1/I2C3_SDA/DCMI_D3/TIM3_CH4/EVENTOUT", E9 PC3 (io) "PC3/SPI2_MOSI/I2S2_SD/OTG_HS_ULPI_NXT/ETH_MII_TX_CLK/EVENTOUT/ADC123_IN13", E10 PC0 (io) "PC0/OTG_HS_ULPI_STP/EVENTOUT/ADC123_IN10", F1 PD15 (io) "PD15/FSMC_D1/TIM4_CH4/EVENTOUT", F2 PD14 (io) "PD14/FSMC_D0/TIM4_CH3/EVENTOUT", F3 PC6 (io) "PC6/I2S2_MCK/TIM8_CH1/SDIO_D6/USART6_TX/DCMI_D0/TIM3_CH1/EVENTOUT", F4 VCAP_1 (power), F5 PE14 (io) "PE14/FSMC_D11/TIM1_CH4/EVENTOUT", F6 PE10 (io) "PE10/FSMC_D7/TIM1_CH2N/EVENTOUT", F8 PA1 (io) "PA1/USART2_RTS/UART4_RX/ETH_RMII_REF_CLK/ETH_MII_RX_CLK/TIM5_CH2/TIM2_CH2/EVENTOUT/ADC123_IN1", F9 PH1-OSC_OUT(PH1) (io) "PH1-OSC_OUT(PH1)/EVENTOUT/OSC_OUT", F10 PH0-OSC_IN(PH0) (io) "PH0-OSC_IN(PH0)/EVENTOUT/OSC_IN", G1 PD11 (io) "PD11/FSMC_CLE/FSMC_A16/USART3_CTS/EVENTOUT", G2 PD12 (io) "PD12/FSMC_ALE/FSMC_A17/TIM4_CH1/USART3_RTS/EVENTOUT", G3 PD10 (io) "PD10/FSMC_D15/USART3_CK/EVENTOUT", G4 PE15 (io) "PE15/FSMC_D12/TIM1_BKIN/EVENTOUT", G5 PE13 (io) "PE13/FSMC_D10/TIM1_CH3/EVENTOUT", G6 PE7 (io) "PE7/FSMC_D4/TIM1_ETR/EVENTOUT", G7 PB0 (io) "PB0/TIM3_CH3/TIM8_CH2N/OTG_HS_ULPI_D1/ETH_MII_RXD2/TIM1_CH2N/EVENTOUT/ADC12_IN8", G8 PA5 (io) "PA5/SPI1_SCK/OTG_HS_ULPI_CK/TIM2_CH1_ETR/TIM8_CH1N/EVENTOUT/ADC12_IN5/DAC_OUT2", G10 NRST (io), H1 PB15 (io) "PB15/SPI2_MOSI/I2S2_SD/TIM1_CH3N/TIM8_CH3N/TIM12_CH2/OTG_HS_DP/EVENTOUT/RTC_REFIN", H2 PD8 (io) "PD8/FSMC_D13/USART3_TX/EVENTOUT", H3 PD9 (io) "PD9/FSMC_D14/USART3_RX/EVENTOUT", H4 PB10 (io) "PB10/SPI2_SCK/I2S2_CK/I2C2_SCL/USART3_TX/OTG_HS_ULPI_D3/ETH_MII_RX_ER/TIM2_CH3/EVENTOUT", H5 PE12 (io) "PE12/FSMC_D9/TIM1_CH3N/EVENTOUT", H6 PE8 (io) "PE8/FSMC_D5/TIM1_CH1N/EVENTOUT", H7 PB1 (io) "PB1/TIM3_CH4/TIM8_CH3N/OTG_HS_ULPI_D2/ETH_MII_RXD3/TIM1_CH3N/EVENTOUT/ADC12_IN9", H8 PA6 (io) "PA6/SPI1_MISO/TIM8_BKIN/TIM13_CH1/DCMI_PIXCLK/TIM3_CH1/TIM1_BKIN/EVENTOUT/ADC12_IN6", H9 PA3 (io) "PA3/USART2_RX/TIM5_CH4/TIM9_CH2/TIM2_CH4/OTG_HS_ULPI_D0/ETH_MII_COL/EVENTOUT/ADC123_IN3", J1 PB13 (io) "PB13/SPI2_SCK/I2S2_CK/USART3_CTS/TIM1_CH1N/CAN2_TX/OTG_HS_ULPI_D6/ETH_RMII_TXD1/ETH_MII_TXD1/EVENTOUT/OTG_HS_VBUS", J2 PB14 (io) "PB14/SPI2_MISO/TIM1_CH2N/TIM12_CH1/OTG_HS_DM/USART3_RTS/TIM8_CH2N/I2S2ext_SD/EVENTOUT", J3 PB12 (io) "PB12/SPI2_NSS/I2S2_WS/I2C2_SMBA/USART3_CK/TIM1_BKIN/CAN2_RX/OTG_HS_ULPI_D5/ETH_RMII_TXD0/ETH_MII_TXD0/OTG_HS_ID/EVENTOUT", J4 PB11 (io) "PB11/I2C2_SDA/USART3_RX/OTG_HS_ULPI_D4/ETH_RMII_TX_EN/ETH_MII_TX_EN/TIM2_CH4/EVENTOUT", J5 PE11 (io) "PE11/FSMC_D8/TIM1_CH2/EVENTOUT", J6 PE9 (io) "PE9/FSMC_D6/TIM1_CH1/EVENTOUT", J7 PB2-BOOT1(PB2) (io) "PB2-BOOT1(PB2)/EVENTOUT", J8 PA7 (io) "PA7/SPI1_MOSI/TIM8_CH1N/TIM14_CH1/TIM3_CH2/ETH_MII_RX_DV/TIM1_CH1N/ETH_RMII_CRS_DV/EVENTOUT/ADC12_IN7", J9 PA4 (io) "PA4/SPI1_NSS/SPI3_NSS/USART2_CK/DCMI_HSYNC/OTG_HS_SOF/I2S3_WS/EVENTOUT/ADC12_IN4/DAC_OUT1", J10 PA2 (io) "PA2/USART2_TX/TIM5_CH3/TIM9_CH1/TIM2_CH3/ETH_MDIO/EVENTOUT/ADC123_IN2"
part B pins: A1 VDD (power), A10 VBAT (power), B8 VDD (power), C9 VSS (power), E4 VDD (power), E5 VSS (power), E6 VDD (power), E7 VSS (power), E8 VSS (power), F7 VDD (power), G9 VDDA (power), H10 VSSA (power)

## STM32F405OGY6TR
designator U?
ARM Cortex-M4 32-bit MCU+FPU, 210 DMIPS, 1024 kB Flash, 192 kB Internal RAM, 72 I/Os, 90-pin WLCSP, -40 to 85 degC, Tape and Reel; Manufacturer: STMicroelectronics; PartNumber: STM32F405OGY6TR; D/A Converter: 2x12-bit; FLASH Size (Prog) (kB): 1024; I/Os (High Current): 72; Internal RAM Size (kB): 192; Operating Frequency(F) (Processor speed) (MHz): 168; Supply Voltage(Vcc) max (V): 3.6; Supply Voltage(Vcc) min (V): 1.8; DatasheetVersion: Rev. 4; PackageVersion: Rev. 4, 06/2013; PackageReference: WLCSP90; PackageDescription: 90-Ball Wafer Level Chip Size Package, 0.4 mm Pitch; Supplier 1: Digi-Key; Supplier Part Number 1: STM32F405OGY6TR-ND; Supplier 2: Newark; Supplier Part Number 2: 48W6904; Supplier 3: Mouser; Supplier Part Number 3: 511-STM32F405OGY6TR; Core: ARM Cortex-M4; Packing: Tape and Reel; Mounting Technology: Surface Mount; ComponentLink1Description: Manufacturer URL; ComponentLink1URL: http://www.st.com/web/en/home.html; ComponentLink2Description: Datasheet; ComponentLink2URL: http://www.st.com/st-web-ui/static/active/en/resource/technical/document/datasheet/DM00037051.pdf; ComponentLink3Description: Package Specification; ComponentLink3URL: http://www.st.com/st-web-ui/static/active/en/resource/technical/document/datasheet/DM00035129.pdf
footprint STM-WLCSP90 (BGA, 90-Leads, Body 3.97x4.22mm, Pitch 0.4mm)
part A pins: A2 PA14(JTCK-SWCLK) (io) "PA14(JTCK-SWCLK)/JTCK-SWCLK/EVENTOUT", A3 PC12 (io) "PC12/UART5_TX/SDIO_CK/DCMI_D9/SPI3_MOSI/I2S3_SD/USART3_CK/EVENTOUT", A4 PD4 (io) "PD4/FSMC_NOE/USART2_RTS/EVENTOUT", A5 PD7 (io) "PD7/USART2_CK/FSMC_NE1/FSMC_NCE2/EVENTOUT", A6 PB4(NJTRST) (io) "PB4(NJTRST)/NJTRST/SPI3_MISO/TIM3_CH1/SPI1_MISO/I2S3ext_SD/EVENTOUT", A7 BOOT0 (in) "BOOT0/VPP", A8 PDR_ON (in), A9 PC13 (io) "PC13/EVENTOUT/RTC_OUT,RTC_TAMP1,RTC_TS", B1 VCAP_2 (power), B2 PI1 (io) "PI1/SPI2_SCK/I2S2_CK/DCMI_D8/EVENTOUT", B3 PA15(JTDI) (io) "PA15(JTDI)/JTDI/SPI3_NSS/I2S3_WS/TIM2_CH1_ETR/SPI1_NSS/EVENTOUT", B4 PD2 (io) "PD2/TIM3_ETR/UART5_RX/SDIO_CMD/DCMI_D11/EVENTOUT", B5 PD6 (io) "PD6/FSMC_NWAIT/USART2_RX/EVENTOUT", B6 PB3(JTDO/TRACESWO) (io) "PB3(JTDO/TRACESWO)/JTDO/TRACESWO/SPI3_SCK/I2S3_CK/TIM2_CH2/SPI1_SCK/EVENTOUT", B7 PB7 (io) "PB7/I2C1_SDA/FSMC_NL/DCMI_VSYNC/USART1_RX/TIM4_CH2/EVENTOUT", B9 PC15-OSC32_OUT(PC15) (io) "PC15-OSC32_OUT(PC15)/EVENTOUT/OSC32_OUT", B10 PC14-OSC32_IN(PC14) (io) "PC14-OSC32_IN(PC14)/EVENTOUT/OSC32_IN", C1 PA11 (io) "PA11/USART1_CTS/CAN1_RX/TIM1_CH4/OTG_FS_DM/EVENTOUT", C2 PA12 (io) "PA12/USART1_RTS/CAN1_TX/TIM1_ETR/OTG_FS_DP/EVENTOUT", C3 PI0 (io) "PI0/TIM5_CH4/SPI2_NSS/I2S2_WS/DCMI_D13/EVENTOUT", C4 PC11 (io) "PC11/UART4_RX/SPI3_MISO/SDIO_D3/DCMI_D4/USART3_RX/I2S3ext_SD/EVENTOUT", C5 PD1 (io) "PD1/FSMC_D3/CAN1_TX/EVENTOUT", C6 PD5 (io) "PD5/FSMC_NWE/USART2_TX/EVENTOUT", C7 PB6 (io) "PB6/I2C1_SCL/TIM4_CH1/CAN2_TX/DCMI_D5/USART1_TX/EVENTOUT", C8 PB9 (io) "PB9/SPI2_NSS/I2S2_WS/TIM4_CH4/TIM11_CH1/SDIO_D5/DCMI_D7/I2C1_SDA/CAN1_TX/EVENTOUT", C10 PA0-WKUP(PA0) (io) "PA0-WKUP(PA0)/USART2_CTS/UART4_TX/ETH_MII_CRS/TIM2_CH1_ETR/TIM5_CH1/TIM8_ETR/EVENTOUT/ADC123_IN0/WKUP", D1 PA8 (io) "PA8/MCO1/USART1_CK/TIM1_CH1/I2C3_SCL/OTG_FS_SOF/EVENTOUT", D2 PA9 (io) "PA9/USART1_TX/TIM1_CH2/I2C3_SMBA/DCMI_D0/EVENTOUT/OTG_FS_VBUS", D3 PA10 (io) "PA10/USART1_RX/TIM1_CH3/OTG_FS_ID/DCMI_D1/EVENTOUT", D4 PA13(JTMS-SWDIO) (io) "PA13(JTMS-SWDIO)/JTMS-SWDIO/EVENTOUT", D5 PC10 (io) "PC10/SPI3_SCK/I2S3_CK/UART4_TX/SDIO_D2/DCMI_D8/USART3_TX/EVENTOUT", D6 PD0 (io) "PD0/FSMC_D2/CAN1_RX/EVENTOUT", D7 PB5 (io) "PB5/I2C1_SMBA/CAN2_RX/OTG_HS_ULPI_D7/ETH_PPS_OUT/TIM3_CH2/SPI1_MOSI/SPI3_MOSI/DCMI_D10/I2S3_SD/EVENTOUT", D8 PB8 (io) "PB8/TIM4_CH3/SDIO_D4/TIM10_CH1/DCMI_D6/ETH_MII_TXD3/I2C1_SCL/CAN1_RX/EVENTOUT", D9 BYPASS_REG (in), D10 PC2 (io) "PC2/SPI2_MISO/OTG_HS_ULPI_DIR/ETH_MII_TXD2/I2S2ext_SD/EVENTOUT/ADC123_IN12", E1 PC7 (io) "PC7/I2S3_MCK/TIM8_CH2/SDIO_D7/USART6_RX/DCMI_D1/TIM3_CH2/EVENTOUT", E2 PC8 (io) "PC8/TIM8_CH3/SDIO_D0/TIM3_CH3/USART6_CK/DCMI_D2/EVENTOUT", E3 PC9 (io) "PC9/I2S_CKIN/MCO2/TIM8_CH4/SDIO_D1/I2C3_SDA/DCMI_D3/TIM3_CH4/EVENTOUT", E9 PC3 (io) "PC3/SPI2_MOSI/I2S2_SD/OTG_HS_ULPI_NXT/ETH_MII_TX_CLK/EVENTOUT/ADC123_IN13", E10 PC0 (io) "PC0/OTG_HS_ULPI_STP/EVENTOUT/ADC123_IN10", F1 PD15 (io) "PD15/FSMC_D1/TIM4_CH4/EVENTOUT", F2 PD14 (io) "PD14/FSMC_D0/TIM4_CH3/EVENTOUT", F3 PC6 (io) "PC6/I2S2_MCK/TIM8_CH1/SDIO_D6/USART6_TX/DCMI_D0/TIM3_CH1/EVENTOUT", F4 VCAP_1 (power), F5 PE14 (io) "PE14/FSMC_D11/TIM1_CH4/EVENTOUT", F6 PE10 (io) "PE10/FSMC_D7/TIM1_CH2N/EVENTOUT", F8 PA1 (io) "PA1/USART2_RTS/UART4_RX/ETH_RMII_REF_CLK/ETH_MII_RX_CLK/TIM5_CH2/TIM2_CH2/EVENTOUT/ADC123_IN1", F9 PH1-OSC_OUT(PH1) (io) "PH1-OSC_OUT(PH1)/EVENTOUT/OSC_OUT", F10 PH0-OSC_IN(PH0) (io) "PH0-OSC_IN(PH0)/EVENTOUT/OSC_IN", G1 PD11 (io) "PD11/FSMC_CLE/FSMC_A16/USART3_CTS/EVENTOUT", G2 PD12 (io) "PD12/FSMC_ALE/FSMC_A17/TIM4_CH1/USART3_RTS/EVENTOUT", G3 PD10 (io) "PD10/FSMC_D15/USART3_CK/EVENTOUT", G4 PE15 (io) "PE15/FSMC_D12/TIM1_BKIN/EVENTOUT", G5 PE13 (io) "PE13/FSMC_D10/TIM1_CH3/EVENTOUT", G6 PE7 (io) "PE7/FSMC_D4/TIM1_ETR/EVENTOUT", G7 PB0 (io) "PB0/TIM3_CH3/TIM8_CH2N/OTG_HS_ULPI_D1/ETH_MII_RXD2/TIM1_CH2N/EVENTOUT/ADC12_IN8", G8 PA5 (io) "PA5/SPI1_SCK/OTG_HS_ULPI_CK/TIM2_CH1_ETR/TIM8_CH1N/EVENTOUT/ADC12_IN5/DAC_OUT2", G10 NRST (io), H1 PB15 (io) "PB15/SPI2_MOSI/I2S2_SD/TIM1_CH3N/TIM8_CH3N/TIM12_CH2/OTG_HS_DP/EVENTOUT/RTC_REFIN", H2 PD8 (io) "PD8/FSMC_D13/USART3_TX/EVENTOUT", H3 PD9 (io) "PD9/FSMC_D14/USART3_RX/EVENTOUT", H4 PB10 (io) "PB10/SPI2_SCK/I2S2_CK/I2C2_SCL/USART3_TX/OTG_HS_ULPI_D3/ETH_MII_RX_ER/TIM2_CH3/EVENTOUT", H5 PE12 (io) "PE12/FSMC_D9/TIM1_CH3N/EVENTOUT", H6 PE8 (io) "PE8/FSMC_D5/TIM1_CH1N/EVENTOUT", H7 PB1 (io) "PB1/TIM3_CH4/TIM8_CH3N/OTG_HS_ULPI_D2/ETH_MII_RXD3/TIM1_CH3N/EVENTOUT/ADC12_IN9", H8 PA6 (io) "PA6/SPI1_MISO/TIM8_BKIN/TIM13_CH1/DCMI_PIXCLK/TIM3_CH1/TIM1_BKIN/EVENTOUT/ADC12_IN6", H9 PA3 (io) "PA3/USART2_RX/TIM5_CH4/TIM9_CH2/TIM2_CH4/OTG_HS_ULPI_D0/ETH_MII_COL/EVENTOUT/ADC123_IN3", J1 PB13 (io) "PB13/SPI2_SCK/I2S2_CK/USART3_CTS/TIM1_CH1N/CAN2_TX/OTG_HS_ULPI_D6/ETH_RMII_TXD1/ETH_MII_TXD1/EVENTOUT/OTG_HS_VBUS", J2 PB14 (io) "PB14/SPI2_MISO/TIM1_CH2N/TIM12_CH1/OTG_HS_DM/USART3_RTS/TIM8_CH2N/I2S2ext_SD/EVENTOUT", J3 PB12 (io) "PB12/SPI2_NSS/I2S2_WS/I2C2_SMBA/USART3_CK/TIM1_BKIN/CAN2_RX/OTG_HS_ULPI_D5/ETH_RMII_TXD0/ETH_MII_TXD0/OTG_HS_ID/EVENTOUT", J4 PB11 (io) "PB11/I2C2_SDA/USART3_RX/OTG_HS_ULPI_D4/ETH_RMII_TX_EN/ETH_MII_TX_EN/TIM2_CH4/EVENTOUT", J5 PE11 (io) "PE11/FSMC_D8/TIM1_CH2/EVENTOUT", J6 PE9 (io) "PE9/FSMC_D6/TIM1_CH1/EVENTOUT", J7 PB2-BOOT1(PB2) (io) "PB2-BOOT1(PB2)/EVENTOUT", J8 PA7 (io) "PA7/SPI1_MOSI/TIM8_CH1N/TIM14_CH1/TIM3_CH2/ETH_MII_RX_DV/TIM1_CH1N/ETH_RMII_CRS_DV/EVENTOUT/ADC12_IN7", J9 PA4 (io) "PA4/SPI1_NSS/SPI3_NSS/USART2_CK/DCMI_HSYNC/OTG_HS_SOF/I2S3_WS/EVENTOUT/ADC12_IN4/DAC_OUT1", J10 PA2 (io) "PA2/USART2_TX/TIM5_CH3/TIM9_CH1/TIM2_CH3/ETH_MDIO/EVENTOUT/ADC123_IN2"
part B pins: A1 VDD (power), A10 VBAT (power), B8 VDD (power), C9 VSS (power), E4 VDD (power), E5 VSS (power), E6 VDD (power), E7 VSS (power), E8 VSS (power), F7 VDD (power), G9 VDDA (power), H10 VSSA (power)

## STM32F405OGY6VTR
designator U?
ARM Cortex-M4 32-bit MCU+FPU, 210 DMIPS, 1024 kB Flash, 192 kB Internal RAM, 72 I/Os, 90-pin WLCSP, -40 to 85 degC, Tape and Reel; Manufacturer: STMicroelectronics; PartNumber: STM32F405OGY6VTR; D/A Converter: 2x12-bit; FLASH Size (Prog) (kB): 1024; I/Os (High Current): 72; Internal RAM Size (kB): 192; Operating Frequency(F) (Processor speed) (MHz): 168; Supply Voltage(Vcc) max (V): 3.6; Supply Voltage(Vcc) min (V): 1.8; DatasheetVersion: Rev. 4; PackageVersion: Rev. 4, 06/2013; PackageReference: WLCSP90; PackageDescription: 90-Ball Wafer Level Chip Size Package, 0.4 mm Pitch; Supplier 1: Digi-Key; Supplier Part Number 1: STM32F405OGY6VTR-ND; Supplier 2: Newark; Supplier Part Number 2: 66W7295; Supplier 3: Mouser; Supplier Part Number 3: 511-STM32F405OGY6VTR; Core: ARM Cortex-M4; Packing: Tape and Reel; Mounting Technology: Surface Mount; ComponentLink1Description: Manufacturer URL; ComponentLink1URL: http://www.st.com/web/en/home.html; ComponentLink2Description: Datasheet; ComponentLink2URL: http://www.st.com/st-web-ui/static/active/en/resource/technical/document/datasheet/DM00037051.pdf; ComponentLink3Description: Package Specification; ComponentLink3URL: http://www.st.com/st-web-ui/static/active/en/resource/technical/document/datasheet/DM00035129.pdf
footprint STM-WLCSP90 (BGA, 90-Leads, Body 3.97x4.22mm, Pitch 0.4mm)
part A pins: A2 PA14(JTCK-SWCLK) (io) "PA14(JTCK-SWCLK)/JTCK-SWCLK/EVENTOUT", A3 PC12 (io) "PC12/UART5_TX/SDIO_CK/DCMI_D9/SPI3_MOSI/I2S3_SD/USART3_CK/EVENTOUT", A4 PD4 (io) "PD4/FSMC_NOE/USART2_RTS/EVENTOUT", A5 PD7 (io) "PD7/USART2_CK/FSMC_NE1/FSMC_NCE2/EVENTOUT", A6 PB4(NJTRST) (io) "PB4(NJTRST)/NJTRST/SPI3_MISO/TIM3_CH1/SPI1_MISO/I2S3ext_SD/EVENTOUT", A7 BOOT0 (in) "BOOT0/VPP", A8 PDR_ON (in), A9 PC13 (io) "PC13/EVENTOUT/RTC_OUT,RTC_TAMP1,RTC_TS", B1 VCAP_2 (power), B2 PI1 (io) "PI1/SPI2_SCK/I2S2_CK/DCMI_D8/EVENTOUT", B3 PA15(JTDI) (io) "PA15(JTDI)/JTDI/SPI3_NSS/I2S3_WS/TIM2_CH1_ETR/SPI1_NSS/EVENTOUT", B4 PD2 (io) "PD2/TIM3_ETR/UART5_RX/SDIO_CMD/DCMI_D11/EVENTOUT", B5 PD6 (io) "PD6/FSMC_NWAIT/USART2_RX/EVENTOUT", B6 PB3(JTDO/TRACESWO) (io) "PB3(JTDO/TRACESWO)/JTDO/TRACESWO/SPI3_SCK/I2S3_CK/TIM2_CH2/SPI1_SCK/EVENTOUT", B7 PB7 (io) "PB7/I2C1_SDA/FSMC_NL/DCMI_VSYNC/USART1_RX/TIM4_CH2/EVENTOUT", B9 PC15-OSC32_OUT(PC15) (io) "PC15-OSC32_OUT(PC15)/EVENTOUT/OSC32_OUT", B10 PC14-OSC32_IN(PC14) (io) "PC14-OSC32_IN(PC14)/EVENTOUT/OSC32_IN", C1 PA11 (io) "PA11/USART1_CTS/CAN1_RX/TIM1_CH4/OTG_FS_DM/EVENTOUT", C2 PA12 (io) "PA12/USART1_RTS/CAN1_TX/TIM1_ETR/OTG_FS_DP/EVENTOUT", C3 PI0 (io) "PI0/TIM5_CH4/SPI2_NSS/I2S2_WS/DCMI_D13/EVENTOUT", C4 PC11 (io) "PC11/UART4_RX/SPI3_MISO/SDIO_D3/DCMI_D4/USART3_RX/I2S3ext_SD/EVENTOUT", C5 PD1 (io) "PD1/FSMC_D3/CAN1_TX/EVENTOUT", C6 PD5 (io) "PD5/FSMC_NWE/USART2_TX/EVENTOUT", C7 PB6 (io) "PB6/I2C1_SCL/TIM4_CH1/CAN2_TX/DCMI_D5/USART1_TX/EVENTOUT", C8 PB9 (io) "PB9/SPI2_NSS/I2S2_WS/TIM4_CH4/TIM11_CH1/SDIO_D5/DCMI_D7/I2C1_SDA/CAN1_TX/EVENTOUT", C10 PA0-WKUP(PA0) (io) "PA0-WKUP(PA0)/USART2_CTS/UART4_TX/ETH_MII_CRS/TIM2_CH1_ETR/TIM5_CH1/TIM8_ETR/EVENTOUT/ADC123_IN0/WKUP", D1 PA8 (io) "PA8/MCO1/USART1_CK/TIM1_CH1/I2C3_SCL/OTG_FS_SOF/EVENTOUT", D2 PA9 (io) "PA9/USART1_TX/TIM1_CH2/I2C3_SMBA/DCMI_D0/EVENTOUT/OTG_FS_VBUS", D3 PA10 (io) "PA10/USART1_RX/TIM1_CH3/OTG_FS_ID/DCMI_D1/EVENTOUT", D4 PA13(JTMS-SWDIO) (io) "PA13(JTMS-SWDIO)/JTMS-SWDIO/EVENTOUT", D5 PC10 (io) "PC10/SPI3_SCK/I2S3_CK/UART4_TX/SDIO_D2/DCMI_D8/USART3_TX/EVENTOUT", D6 PD0 (io) "PD0/FSMC_D2/CAN1_RX/EVENTOUT", D7 PB5 (io) "PB5/I2C1_SMBA/CAN2_RX/OTG_HS_ULPI_D7/ETH_PPS_OUT/TIM3_CH2/SPI1_MOSI/SPI3_MOSI/DCMI_D10/I2S3_SD/EVENTOUT", D8 PB8 (io) "PB8/TIM4_CH3/SDIO_D4/TIM10_CH1/DCMI_D6/ETH_MII_TXD3/I2C1_SCL/CAN1_RX/EVENTOUT", D9 BYPASS_REG (in), D10 PC2 (io) "PC2/SPI2_MISO/OTG_HS_ULPI_DIR/ETH_MII_TXD2/I2S2ext_SD/EVENTOUT/ADC123_IN12", E1 PC7 (io) "PC7/I2S3_MCK/TIM8_CH2/SDIO_D7/USART6_RX/DCMI_D1/TIM3_CH2/EVENTOUT", E2 PC8 (io) "PC8/TIM8_CH3/SDIO_D0/TIM3_CH3/USART6_CK/DCMI_D2/EVENTOUT", E3 PC9 (io) "PC9/I2S_CKIN/MCO2/TIM8_CH4/SDIO_D1/I2C3_SDA/DCMI_D3/TIM3_CH4/EVENTOUT", E9 PC3 (io) "PC3/SPI2_MOSI/I2S2_SD/OTG_HS_ULPI_NXT/ETH_MII_TX_CLK/EVENTOUT/ADC123_IN13", E10 PC0 (io) "PC0/OTG_HS_ULPI_STP/EVENTOUT/ADC123_IN10", F1 PD15 (io) "PD15/FSMC_D1/TIM4_CH4/EVENTOUT", F2 PD14 (io) "PD14/FSMC_D0/TIM4_CH3/EVENTOUT", F3 PC6 (io) "PC6/I2S2_MCK/TIM8_CH1/SDIO_D6/USART6_TX/DCMI_D0/TIM3_CH1/EVENTOUT", F4 VCAP_1 (power), F5 PE14 (io) "PE14/FSMC_D11/TIM1_CH4/EVENTOUT", F6 PE10 (io) "PE10/FSMC_D7/TIM1_CH2N/EVENTOUT", F8 PA1 (io) "PA1/USART2_RTS/UART4_RX/ETH_RMII_REF_CLK/ETH_MII_RX_CLK/TIM5_CH2/TIM2_CH2/EVENTOUT/ADC123_IN1", F9 PH1-OSC_OUT(PH1) (io) "PH1-OSC_OUT(PH1)/EVENTOUT/OSC_OUT", F10 PH0-OSC_IN(PH0) (io) "PH0-OSC_IN(PH0)/EVENTOUT/OSC_IN", G1 PD11 (io) "PD11/FSMC_CLE/FSMC_A16/USART3_CTS/EVENTOUT", G2 PD12 (io) "PD12/FSMC_ALE/FSMC_A17/TIM4_CH1/USART3_RTS/EVENTOUT", G3 PD10 (io) "PD10/FSMC_D15/USART3_CK/EVENTOUT", G4 PE15 (io) "PE15/FSMC_D12/TIM1_BKIN/EVENTOUT", G5 PE13 (io) "PE13/FSMC_D10/TIM1_CH3/EVENTOUT", G6 PE7 (io) "PE7/FSMC_D4/TIM1_ETR/EVENTOUT", G7 PB0 (io) "PB0/TIM3_CH3/TIM8_CH2N/OTG_HS_ULPI_D1/ETH_MII_RXD2/TIM1_CH2N/EVENTOUT/ADC12_IN8", G8 PA5 (io) "PA5/SPI1_SCK/OTG_HS_ULPI_CK/TIM2_CH1_ETR/TIM8_CH1N/EVENTOUT/ADC12_IN5/DAC_OUT2", G10 NRST (io), H1 PB15 (io) "PB15/SPI2_MOSI/I2S2_SD/TIM1_CH3N/TIM8_CH3N/TIM12_CH2/OTG_HS_DP/EVENTOUT/RTC_REFIN", H2 PD8 (io) "PD8/FSMC_D13/USART3_TX/EVENTOUT", H3 PD9 (io) "PD9/FSMC_D14/USART3_RX/EVENTOUT", H4 PB10 (io) "PB10/SPI2_SCK/I2S2_CK/I2C2_SCL/USART3_TX/OTG_HS_ULPI_D3/ETH_MII_RX_ER/TIM2_CH3/EVENTOUT", H5 PE12 (io) "PE12/FSMC_D9/TIM1_CH3N/EVENTOUT", H6 PE8 (io) "PE8/FSMC_D5/TIM1_CH1N/EVENTOUT", H7 PB1 (io) "PB1/TIM3_CH4/TIM8_CH3N/OTG_HS_ULPI_D2/ETH_MII_RXD3/TIM1_CH3N/EVENTOUT/ADC12_IN9", H8 PA6 (io) "PA6/SPI1_MISO/TIM8_BKIN/TIM13_CH1/DCMI_PIXCLK/TIM3_CH1/TIM1_BKIN/EVENTOUT/ADC12_IN6", H9 PA3 (io) "PA3/USART2_RX/TIM5_CH4/TIM9_CH2/TIM2_CH4/OTG_HS_ULPI_D0/ETH_MII_COL/EVENTOUT/ADC123_IN3", J1 PB13 (io) "PB13/SPI2_SCK/I2S2_CK/USART3_CTS/TIM1_CH1N/CAN2_TX/OTG_HS_ULPI_D6/ETH_RMII_TXD1/ETH_MII_TXD1/EVENTOUT/OTG_HS_VBUS", J2 PB14 (io) "PB14/SPI2_MISO/TIM1_CH2N/TIM12_CH1/OTG_HS_DM/USART3_RTS/TIM8_CH2N/I2S2ext_SD/EVENTOUT", J3 PB12 (io) "PB12/SPI2_NSS/I2S2_WS/I2C2_SMBA/USART3_CK/TIM1_BKIN/CAN2_RX/OTG_HS_ULPI_D5/ETH_RMII_TXD0/ETH_MII_TXD0/OTG_HS_ID/EVENTOUT", J4 PB11 (io) "PB11/I2C2_SDA/USART3_RX/OTG_HS_ULPI_D4/ETH_RMII_TX_EN/ETH_MII_TX_EN/TIM2_CH4/EVENTOUT", J5 PE11 (io) "PE11/FSMC_D8/TIM1_CH2/EVENTOUT", J6 PE9 (io) "PE9/FSMC_D6/TIM1_CH1/EVENTOUT", J7 PB2-BOOT1(PB2) (io) "PB2-BOOT1(PB2)/EVENTOUT", J8 PA7 (io) "PA7/SPI1_MOSI/TIM8_CH1N/TIM14_CH1/TIM3_CH2/ETH_MII_RX_DV/TIM1_CH1N/ETH_RMII_CRS_DV/EVENTOUT/ADC12_IN7", J9 PA4 (io) "PA4/SPI1_NSS/SPI3_NSS/USART2_CK/DCMI_HSYNC/OTG_HS_SOF/I2S3_WS/EVENTOUT/ADC12_IN4/DAC_OUT1", J10 PA2 (io) "PA2/USART2_TX/TIM5_CH3/TIM9_CH1/TIM2_CH3/ETH_MDIO/EVENTOUT/ADC123_IN2"
part B pins: A1 VDD (power), A10 VBAT (power), B8 VDD (power), C9 VSS (power), E4 VDD (power), E5 VSS (power), E6 VDD (power), E7 VSS (power), E8 VSS (power), F7 VDD (power), G9 VDDA (power), H10 VSSA (power)

## STM32F405OGY6WTR
designator U?
ARM Cortex-M4 32-bit MCU+FPU, 210 DMIPS, 1024 kB Flash, 192 kB Internal RAM, 72 I/Os, 90-pin WLCSP, -40 to 85 degC, Tape and Reel; Manufacturer: STMicroelectronics; PartNumber: STM32F405OGY6WTR; D/A Converter: 2x12-bit; FLASH Size (Prog) (kB): 1024; I/Os (High Current): 72; Internal RAM Size (kB): 192; Operating Frequency(F) (Processor speed) (MHz): 168; Supply Voltage(Vcc) max (V): 3.6; Supply Voltage(Vcc) min (V): 1.8; DatasheetVersion: Rev. 4; PackageVersion: Rev. 4, 06/2013; PackageReference: WLCSP90; PackageDescription: 90-Ball Wafer Level Chip Size Package, 0.4 mm Pitch; Supplier 1: Digi-Key; Supplier Part Number 1: STM32F405OGY6WTR-ND; Supplier 2: Newark; Supplier Part Number 2: 66W7296; Supplier 3: Mouser; Supplier Part Number 3: 511-STM32F405OGY6WTR; Core: ARM Cortex-M4; Packing: Tape and Reel; Mounting Technology: Surface Mount; ComponentLink1Description: Manufacturer URL; ComponentLink1URL: http://www.st.com/web/en/home.html; ComponentLink2Description: Datasheet; ComponentLink2URL: http://www.st.com/st-web-ui/static/active/en/resource/technical/document/datasheet/DM00037051.pdf; ComponentLink3Description: Package Specification; ComponentLink3URL: http://www.st.com/st-web-ui/static/active/en/resource/technical/document/datasheet/DM00035129.pdf
footprint STM-WLCSP90 (BGA, 90-Leads, Body 3.97x4.22mm, Pitch 0.4mm)
part A pins: A2 PA14(JTCK-SWCLK) (io) "PA14(JTCK-SWCLK)/JTCK-SWCLK/EVENTOUT", A3 PC12 (io) "PC12/UART5_TX/SDIO_CK/DCMI_D9/SPI3_MOSI/I2S3_SD/USART3_CK/EVENTOUT", A4 PD4 (io) "PD4/FSMC_NOE/USART2_RTS/EVENTOUT", A5 PD7 (io) "PD7/USART2_CK/FSMC_NE1/FSMC_NCE2/EVENTOUT", A6 PB4(NJTRST) (io) "PB4(NJTRST)/NJTRST/SPI3_MISO/TIM3_CH1/SPI1_MISO/I2S3ext_SD/EVENTOUT", A7 BOOT0 (in) "BOOT0/VPP", A8 PDR_ON (in), A9 PC13 (io) "PC13/EVENTOUT/RTC_OUT,RTC_TAMP1,RTC_TS", B1 VCAP_2 (power), B2 PI1 (io) "PI1/SPI2_SCK/I2S2_CK/DCMI_D8/EVENTOUT", B3 PA15(JTDI) (io) "PA15(JTDI)/JTDI/SPI3_NSS/I2S3_WS/TIM2_CH1_ETR/SPI1_NSS/EVENTOUT", B4 PD2 (io) "PD2/TIM3_ETR/UART5_RX/SDIO_CMD/DCMI_D11/EVENTOUT", B5 PD6 (io) "PD6/FSMC_NWAIT/USART2_RX/EVENTOUT", B6 PB3(JTDO/TRACESWO) (io) "PB3(JTDO/TRACESWO)/JTDO/TRACESWO/SPI3_SCK/I2S3_CK/TIM2_CH2/SPI1_SCK/EVENTOUT", B7 PB7 (io) "PB7/I2C1_SDA/FSMC_NL/DCMI_VSYNC/USART1_RX/TIM4_CH2/EVENTOUT", B9 PC15-OSC32_OUT(PC15) (io) "PC15-OSC32_OUT(PC15)/EVENTOUT/OSC32_OUT", B10 PC14-OSC32_IN(PC14) (io) "PC14-OSC32_IN(PC14)/EVENTOUT/OSC32_IN", C1 PA11 (io) "PA11/USART1_CTS/CAN1_RX/TIM1_CH4/OTG_FS_DM/EVENTOUT", C2 PA12 (io) "PA12/USART1_RTS/CAN1_TX/TIM1_ETR/OTG_FS_DP/EVENTOUT", C3 PI0 (io) "PI0/TIM5_CH4/SPI2_NSS/I2S2_WS/DCMI_D13/EVENTOUT", C4 PC11 (io) "PC11/UART4_RX/SPI3_MISO/SDIO_D3/DCMI_D4/USART3_RX/I2S3ext_SD/EVENTOUT", C5 PD1 (io) "PD1/FSMC_D3/CAN1_TX/EVENTOUT", C6 PD5 (io) "PD5/FSMC_NWE/USART2_TX/EVENTOUT", C7 PB6 (io) "PB6/I2C1_SCL/TIM4_CH1/CAN2_TX/DCMI_D5/USART1_TX/EVENTOUT", C8 PB9 (io) "PB9/SPI2_NSS/I2S2_WS/TIM4_CH4/TIM11_CH1/SDIO_D5/DCMI_D7/I2C1_SDA/CAN1_TX/EVENTOUT", C10 PA0-WKUP(PA0) (io) "PA0-WKUP(PA0)/USART2_CTS/UART4_TX/ETH_MII_CRS/TIM2_CH1_ETR/TIM5_CH1/TIM8_ETR/EVENTOUT/ADC123_IN0/WKUP", D1 PA8 (io) "PA8/MCO1/USART1_CK/TIM1_CH1/I2C3_SCL/OTG_FS_SOF/EVENTOUT", D2 PA9 (io) "PA9/USART1_TX/TIM1_CH2/I2C3_SMBA/DCMI_D0/EVENTOUT/OTG_FS_VBUS", D3 PA10 (io) "PA10/USART1_RX/TIM1_CH3/OTG_FS_ID/DCMI_D1/EVENTOUT", D4 PA13(JTMS-SWDIO) (io) "PA13(JTMS-SWDIO)/JTMS-SWDIO/EVENTOUT", D5 PC10 (io) "PC10/SPI3_SCK/I2S3_CK/UART4_TX/SDIO_D2/DCMI_D8/USART3_TX/EVENTOUT", D6 PD0 (io) "PD0/FSMC_D2/CAN1_RX/EVENTOUT", D7 PB5 (io) "PB5/I2C1_SMBA/CAN2_RX/OTG_HS_ULPI_D7/ETH_PPS_OUT/TIM3_CH2/SPI1_MOSI/SPI3_MOSI/DCMI_D10/I2S3_SD/EVENTOUT", D8 PB8 (io) "PB8/TIM4_CH3/SDIO_D4/TIM10_CH1/DCMI_D6/ETH_MII_TXD3/I2C1_SCL/CAN1_RX/EVENTOUT", D9 BYPASS_REG (in), D10 PC2 (io) "PC2/SPI2_MISO/OTG_HS_ULPI_DIR/ETH_MII_TXD2/I2S2ext_SD/EVENTOUT/ADC123_IN12", E1 PC7 (io) "PC7/I2S3_MCK/TIM8_CH2/SDIO_D7/USART6_RX/DCMI_D1/TIM3_CH2/EVENTOUT", E2 PC8 (io) "PC8/TIM8_CH3/SDIO_D0/TIM3_CH3/USART6_CK/DCMI_D2/EVENTOUT", E3 PC9 (io) "PC9/I2S_CKIN/MCO2/TIM8_CH4/SDIO_D1/I2C3_SDA/DCMI_D3/TIM3_CH4/EVENTOUT", E9 PC3 (io) "PC3/SPI2_MOSI/I2S2_SD/OTG_HS_ULPI_NXT/ETH_MII_TX_CLK/EVENTOUT/ADC123_IN13", E10 PC0 (io) "PC0/OTG_HS_ULPI_STP/EVENTOUT/ADC123_IN10", F1 PD15 (io) "PD15/FSMC_D1/TIM4_CH4/EVENTOUT", F2 PD14 (io) "PD14/FSMC_D0/TIM4_CH3/EVENTOUT", F3 PC6 (io) "PC6/I2S2_MCK/TIM8_CH1/SDIO_D6/USART6_TX/DCMI_D0/TIM3_CH1/EVENTOUT", F4 VCAP_1 (power), F5 PE14 (io) "PE14/FSMC_D11/TIM1_CH4/EVENTOUT", F6 PE10 (io) "PE10/FSMC_D7/TIM1_CH2N/EVENTOUT", F8 PA1 (io) "PA1/USART2_RTS/UART4_RX/ETH_RMII_REF_CLK/ETH_MII_RX_CLK/TIM5_CH2/TIM2_CH2/EVENTOUT/ADC123_IN1", F9 PH1-OSC_OUT(PH1) (io) "PH1-OSC_OUT(PH1)/EVENTOUT/OSC_OUT", F10 PH0-OSC_IN(PH0) (io) "PH0-OSC_IN(PH0)/EVENTOUT/OSC_IN", G1 PD11 (io) "PD11/FSMC_CLE/FSMC_A16/USART3_CTS/EVENTOUT", G2 PD12 (io) "PD12/FSMC_ALE/FSMC_A17/TIM4_CH1/USART3_RTS/EVENTOUT", G3 PD10 (io) "PD10/FSMC_D15/USART3_CK/EVENTOUT", G4 PE15 (io) "PE15/FSMC_D12/TIM1_BKIN/EVENTOUT", G5 PE13 (io) "PE13/FSMC_D10/TIM1_CH3/EVENTOUT", G6 PE7 (io) "PE7/FSMC_D4/TIM1_ETR/EVENTOUT", G7 PB0 (io) "PB0/TIM3_CH3/TIM8_CH2N/OTG_HS_ULPI_D1/ETH_MII_RXD2/TIM1_CH2N/EVENTOUT/ADC12_IN8", G8 PA5 (io) "PA5/SPI1_SCK/OTG_HS_ULPI_CK/TIM2_CH1_ETR/TIM8_CH1N/EVENTOUT/ADC12_IN5/DAC_OUT2", G10 NRST (io), H1 PB15 (io) "PB15/SPI2_MOSI/I2S2_SD/TIM1_CH3N/TIM8_CH3N/TIM12_CH2/OTG_HS_DP/EVENTOUT/RTC_REFIN", H2 PD8 (io) "PD8/FSMC_D13/USART3_TX/EVENTOUT", H3 PD9 (io) "PD9/FSMC_D14/USART3_RX/EVENTOUT", H4 PB10 (io) "PB10/SPI2_SCK/I2S2_CK/I2C2_SCL/USART3_TX/OTG_HS_ULPI_D3/ETH_MII_RX_ER/TIM2_CH3/EVENTOUT", H5 PE12 (io) "PE12/FSMC_D9/TIM1_CH3N/EVENTOUT", H6 PE8 (io) "PE8/FSMC_D5/TIM1_CH1N/EVENTOUT", H7 PB1 (io) "PB1/TIM3_CH4/TIM8_CH3N/OTG_HS_ULPI_D2/ETH_MII_RXD3/TIM1_CH3N/EVENTOUT/ADC12_IN9", H8 PA6 (io) "PA6/SPI1_MISO/TIM8_BKIN/TIM13_CH1/DCMI_PIXCLK/TIM3_CH1/TIM1_BKIN/EVENTOUT/ADC12_IN6", H9 PA3 (io) "PA3/USART2_RX/TIM5_CH4/TIM9_CH2/TIM2_CH4/OTG_HS_ULPI_D0/ETH_MII_COL/EVENTOUT/ADC123_IN3", J1 PB13 (io) "PB13/SPI2_SCK/I2S2_CK/USART3_CTS/TIM1_CH1N/CAN2_TX/OTG_HS_ULPI_D6/ETH_RMII_TXD1/ETH_MII_TXD1/EVENTOUT/OTG_HS_VBUS", J2 PB14 (io) "PB14/SPI2_MISO/TIM1_CH2N/TIM12_CH1/OTG_HS_DM/USART3_RTS/TIM8_CH2N/I2S2ext_SD/EVENTOUT", J3 PB12 (io) "PB12/SPI2_NSS/I2S2_WS/I2C2_SMBA/USART3_CK/TIM1_BKIN/CAN2_RX/OTG_HS_ULPI_D5/ETH_RMII_TXD0/ETH_MII_TXD0/OTG_HS_ID/EVENTOUT", J4 PB11 (io) "PB11/I2C2_SDA/USART3_RX/OTG_HS_ULPI_D4/ETH_RMII_TX_EN/ETH_MII_TX_EN/TIM2_CH4/EVENTOUT", J5 PE11 (io) "PE11/FSMC_D8/TIM1_CH2/EVENTOUT", J6 PE9 (io) "PE9/FSMC_D6/TIM1_CH1/EVENTOUT", J7 PB2-BOOT1(PB2) (io) "PB2-BOOT1(PB2)/EVENTOUT", J8 PA7 (io) "PA7/SPI1_MOSI/TIM8_CH1N/TIM14_CH1/TIM3_CH2/ETH_MII_RX_DV/TIM1_CH1N/ETH_RMII_CRS_DV/EVENTOUT/ADC12_IN7", J9 PA4 (io) "PA4/SPI1_NSS/SPI3_NSS/USART2_CK/DCMI_HSYNC/OTG_HS_SOF/I2S3_WS/EVENTOUT/ADC12_IN4/DAC_OUT1", J10 PA2 (io) "PA2/USART2_TX/TIM5_CH3/TIM9_CH1/TIM2_CH3/ETH_MDIO/EVENTOUT/ADC123_IN2"
part B pins: A1 VDD (power), A10 VBAT (power), B8 VDD (power), C9 VSS (power), E4 VDD (power), E5 VSS (power), E6 VDD (power), E7 VSS (power), E8 VSS (power), F7 VDD (power), G9 VDDA (power), H10 VSSA (power)